# Altium schematic symbol library rcl.SCHLIB: 895 symbols (part 1 of 2)
Pins are listed as number, name and electrical type; pins without a type are passive.

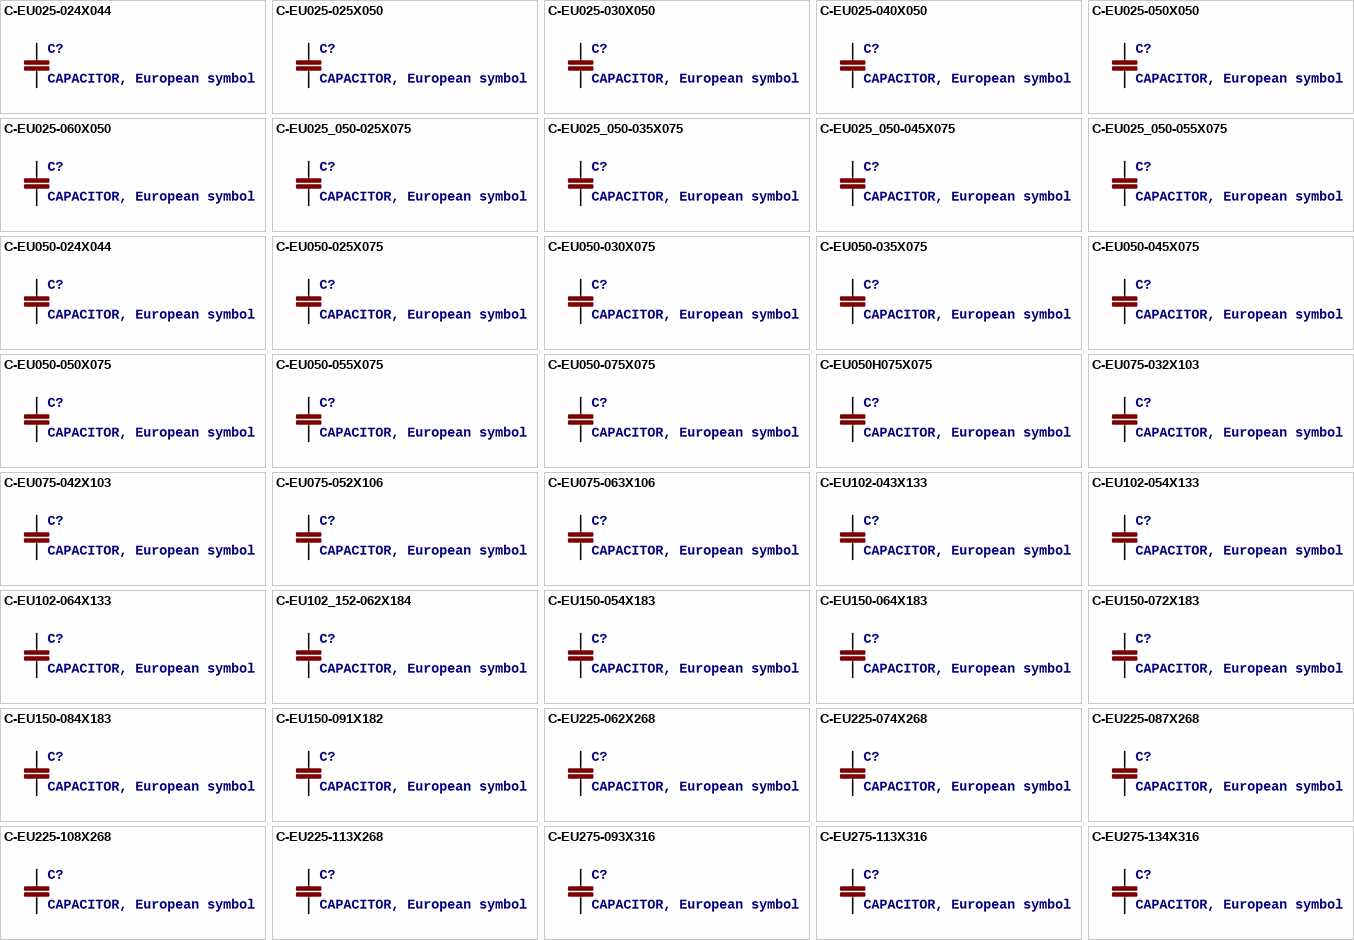
[diagram p0: symbols C-EU025-024X044 to C-EU275-134X316]

## C-EU025-024X044
designator C?, comment CAPACITOR, European symbol
footprint C025-024X044
pins: 1, 2

## C-EU025-025X050
designator C?, comment CAPACITOR, European symbol
footprint C025-025X050
pins: 1, 2

## C-EU025-030X050
designator C?, comment CAPACITOR, European symbol
footprint C025-030X050
pins: 1, 2

## C-EU025-040X050
designator C?, comment CAPACITOR, European symbol
footprint C025-040X050
pins: 1, 2

## C-EU025-050X050
designator C?, comment CAPACITOR, European symbol
footprint C025-050X050
pins: 1, 2

## C-EU025-060X050
designator C?, comment CAPACITOR, European symbol
footprint C025-060X050
pins: 1, 2

## C-EU025_050-025X075
designator C?, comment CAPACITOR, European symbol
footprint C025_050-025X075
pins: 1, 2

## C-EU025_050-035X075
designator C?, comment CAPACITOR, European symbol
footprint C025_050-035X075
pins: 1, 2

## C-EU025_050-045X075
designator C?, comment CAPACITOR, European symbol
footprint C025_050-045X075
pins: 1, 2

## C-EU025_050-055X075
designator C?, comment CAPACITOR, European symbol
footprint C025_050-055X075
pins: 1, 2

## C-EU050-024X044
designator C?, comment CAPACITOR, European symbol
footprint C050-024X044
pins: 1, 2

## C-EU050-025X075
designator C?, comment CAPACITOR, European symbol
footprint C050-025X075
pins: 1, 2

## C-EU050-030X075
designator C?, comment CAPACITOR, European symbol
footprint C050-030X075
pins: 1, 2

## C-EU050-035X075
designator C?, comment CAPACITOR, European symbol
footprint C050-035X075
pins: 1, 2

## C-EU050-045X075
designator C?, comment CAPACITOR, European symbol
footprint C050-045X075
pins: 1, 2

## C-EU050-050X075
designator C?, comment CAPACITOR, European symbol
footprint C050-050X075
pins: 1, 2

## C-EU050-055X075
designator C?, comment CAPACITOR, European symbol
footprint C050-055X075
pins: 1, 2

## C-EU050-075X075
designator C?, comment CAPACITOR, European symbol
footprint C050-075X075
pins: 1, 2

## C-EU050H075X075
designator C?, comment CAPACITOR, European symbol
footprint C050H075X075
pins: 1, 2

## C-EU075-032X103
designator C?, comment CAPACITOR, European symbol
footprint C075-032X103
pins: 1, 2

## C-EU075-042X103
designator C?, comment CAPACITOR, European symbol
footprint C075-042X103
pins: 1, 2

## C-EU075-052X106
designator C?, comment CAPACITOR, European symbol
footprint C075-052X106
pins: 1, 2

## C-EU075-063X106
designator C?, comment CAPACITOR, European symbol
footprint C075-063X106
pins: 1, 2

## C-EU102-043X133
designator C?, comment CAPACITOR, European symbol
footprint C102-043X133
pins: 1, 2

## C-EU102-054X133
designator C?, comment CAPACITOR, European symbol
footprint C102-054X133
pins: 1, 2

## C-EU102-064X133
designator C?, comment CAPACITOR, European symbol
footprint C102-064X133
pins: 1, 2

## C-EU102_152-062X184
designator C?, comment CAPACITOR, European symbol
footprint C102_152-062X184
pins: 1, 2

## C-EU150-054X183
designator C?, comment CAPACITOR, European symbol
footprint C150-054X183
pins: 1, 2

## C-EU150-064X183
designator C?, comment CAPACITOR, European symbol
footprint C150-064X183
pins: 1, 2

## C-EU150-072X183
designator C?, comment CAPACITOR, European symbol
footprint C150-072X183
pins: 1, 2

## C-EU150-084X183
designator C?, comment CAPACITOR, European symbol
footprint C150-084X183
pins: 1, 2

## C-EU150-091X182
designator C?, comment CAPACITOR, European symbol
footprint C150-091X182
pins: 1, 2

## C-EU225-062X268
designator C?, comment CAPACITOR, European symbol
footprint C225-062X268
pins: 1, 2

## C-EU225-074X268
designator C?, comment CAPACITOR, European symbol
footprint C225-074X268
pins: 1, 2

## C-EU225-087X268
designator C?, comment CAPACITOR, European symbol
footprint C225-087X268
pins: 1, 2

## C-EU225-108X268
designator C?, comment CAPACITOR, European symbol
footprint C225-108X268
pins: 1, 2

## C-EU225-113X268
designator C?, comment CAPACITOR, European symbol
footprint C225-113X268
pins: 1, 2

## C-EU275-093X316
designator C?, comment CAPACITOR, European symbol
footprint C275-093X316
pins: 1, 2

## C-EU275-113X316
designator C?, comment CAPACITOR, European symbol
footprint C275-113X316
pins: 1, 2

## C-EU275-134X316
designator C?, comment CAPACITOR, European symbol
footprint C275-134X316
pins: 1, 2

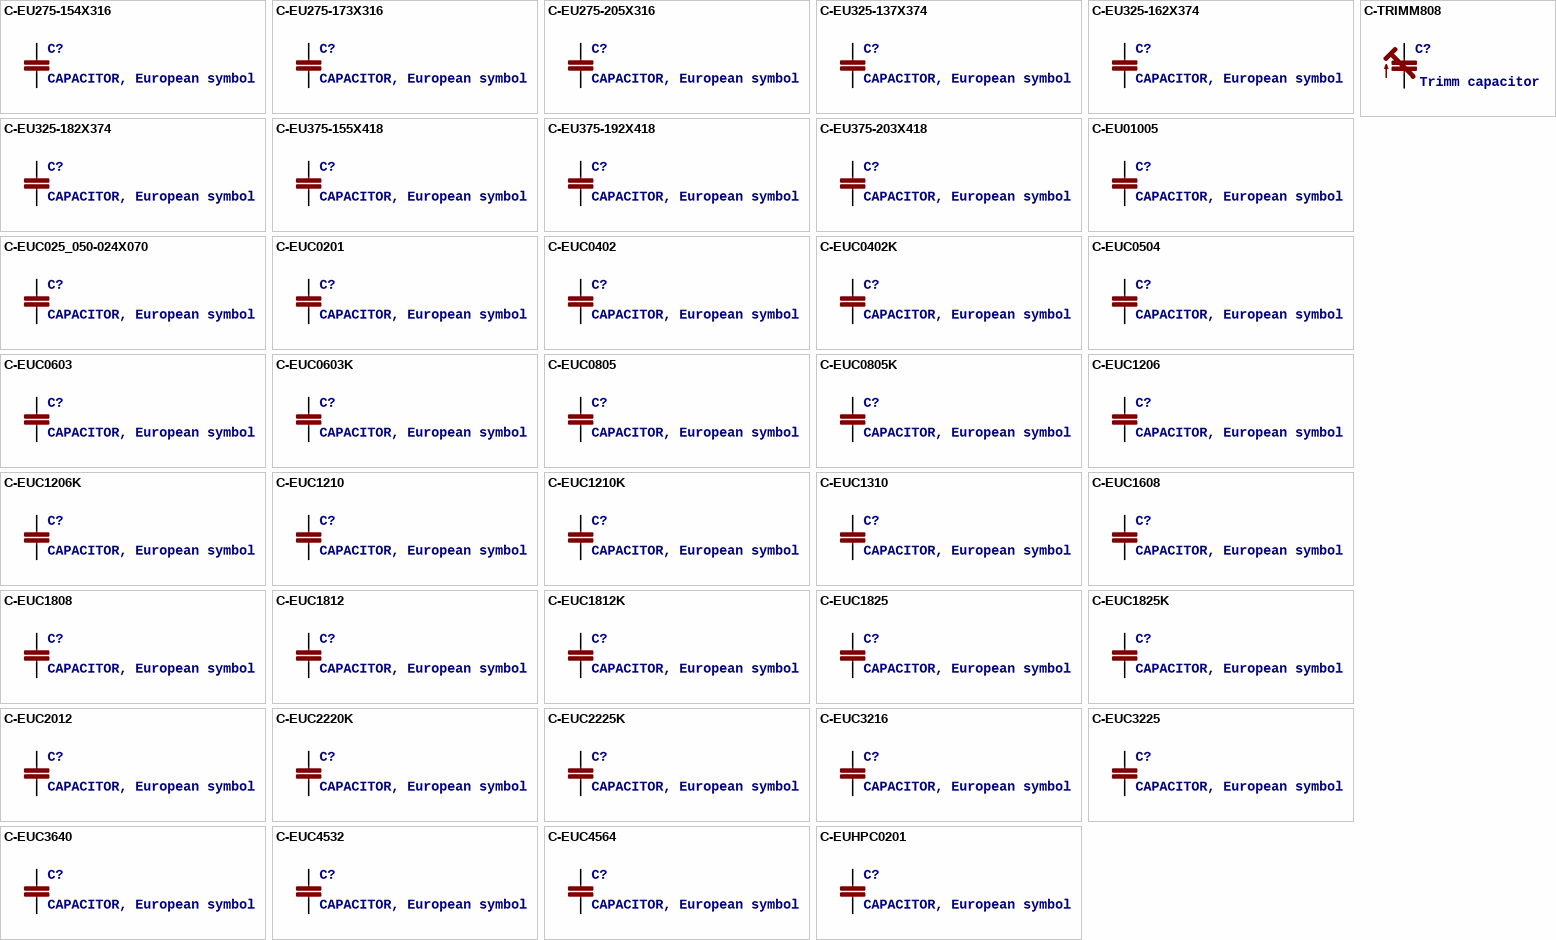
[diagram p1: symbols C-EU275-154X316 to C-TRIMM808]

## C-EU275-154X316
designator C?, comment CAPACITOR, European symbol
footprint C275-154X316
pins: 1, 2

## C-EU275-173X316
designator C?, comment CAPACITOR, European symbol
footprint C275-173X316
pins: 1, 2

## C-EU275-205X316
designator C?, comment CAPACITOR, European symbol
footprint C275-205X316
pins: 1, 2

## C-EU325-137X374
designator C?, comment CAPACITOR, European symbol
footprint C325-137X374
pins: 1, 2

## C-EU325-162X374
designator C?, comment CAPACITOR, European symbol
footprint C325-162X374
pins: 1, 2

## C-EU325-182X374
designator C?, comment CAPACITOR, European symbol
footprint C325-182X374
pins: 1, 2

## C-EU375-155X418
designator C?, comment CAPACITOR, European symbol
footprint C375-155X418
pins: 1, 2

## C-EU375-192X418
designator C?, comment CAPACITOR, European symbol
footprint C375-192X418
pins: 1, 2

## C-EU375-203X418
designator C?, comment CAPACITOR, European symbol
footprint C375-203X418
pins: 1, 2

## C-EU01005
designator C?, comment CAPACITOR, European symbol
footprint C01005
pins: 1, 2

## C-EUC025_050-024X070
designator C?, comment CAPACITOR, European symbol
footprint C025_050-024X070
pins: 1, 2

## C-EUC0201
designator C?, comment CAPACITOR, European symbol
footprint C0201
pins: 1, 2

## C-EUC0402
designator C?, comment CAPACITOR, European symbol
footprint C0402
pins: 1, 2

## C-EUC0402K
designator C?, comment CAPACITOR, European symbol
footprint C0402K
pins: 1, 2

## C-EUC0504
designator C?, comment CAPACITOR, European symbol
footprint C0504
pins: 1, 2

## C-EUC0603
designator C?, comment CAPACITOR, European symbol
footprint C0603
pins: 1, 2

## C-EUC0603K
designator C?, comment CAPACITOR, European symbol
footprint C0603K
pins: 1, 2

## C-EUC0805
designator C?, comment CAPACITOR, European symbol
footprint C0805
pins: 1, 2

## C-EUC0805K
designator C?, comment CAPACITOR, European symbol
footprint C0805K
pins: 1, 2

## C-EUC1206
designator C?, comment CAPACITOR, European symbol
footprint C1206
pins: 1, 2

## C-EUC1206K
designator C?, comment CAPACITOR, European symbol
footprint C1206K
pins: 1, 2

## C-EUC1210
designator C?, comment CAPACITOR, European symbol
footprint C1210
pins: 1, 2

## C-EUC1210K
designator C?, comment CAPACITOR, European symbol
footprint C1210K
pins: 1, 2

## C-EUC1310
designator C?, comment CAPACITOR, European symbol
footprint C1310
pins: 1, 2

## C-EUC1608
designator C?, comment CAPACITOR, European symbol
footprint C1608
pins: 1, 2

## C-EUC1808
designator C?, comment CAPACITOR, European symbol
footprint C1808
pins: 1, 2

## C-EUC1812
designator C?, comment CAPACITOR, European symbol
footprint C1812
pins: 1, 2

## C-EUC1812K
designator C?, comment CAPACITOR, European symbol
footprint C1812K
pins: 1, 2

## C-EUC1825
designator C?, comment CAPACITOR, European symbol
footprint C1825
pins: 1, 2

## C-EUC1825K
designator C?, comment CAPACITOR, European symbol
footprint C1825K
pins: 1, 2

## C-EUC2012
designator C?, comment CAPACITOR, European symbol
footprint C2012
pins: 1, 2

## C-EUC2220K
designator C?, comment CAPACITOR, European symbol
footprint C2220K
pins: 1, 2

## C-EUC2225K
designator C?, comment CAPACITOR, European symbol
footprint C2225K
pins: 1, 2

## C-EUC3216
designator C?, comment CAPACITOR, European symbol
footprint C3216
pins: 1, 2

## C-EUC3225
designator C?, comment CAPACITOR, European symbol
footprint C3225
pins: 1, 2

## C-EUC3640
designator C?, comment CAPACITOR, European symbol
footprint C3640
pins: 1, 2

## C-EUC4532
designator C?, comment CAPACITOR, European symbol
footprint C4532
pins: 1, 2

## C-EUC4564
designator C?, comment CAPACITOR, European symbol
footprint C4564
pins: 1, 2

## C-EUHPC0201
designator C?, comment CAPACITOR, European symbol
footprint HPC0201
pins: 1, 2

## C-TRIMM808
designator C?, comment Trimm capacitor
footprint CTRIM808-BC
pins: 1 E, 2 A

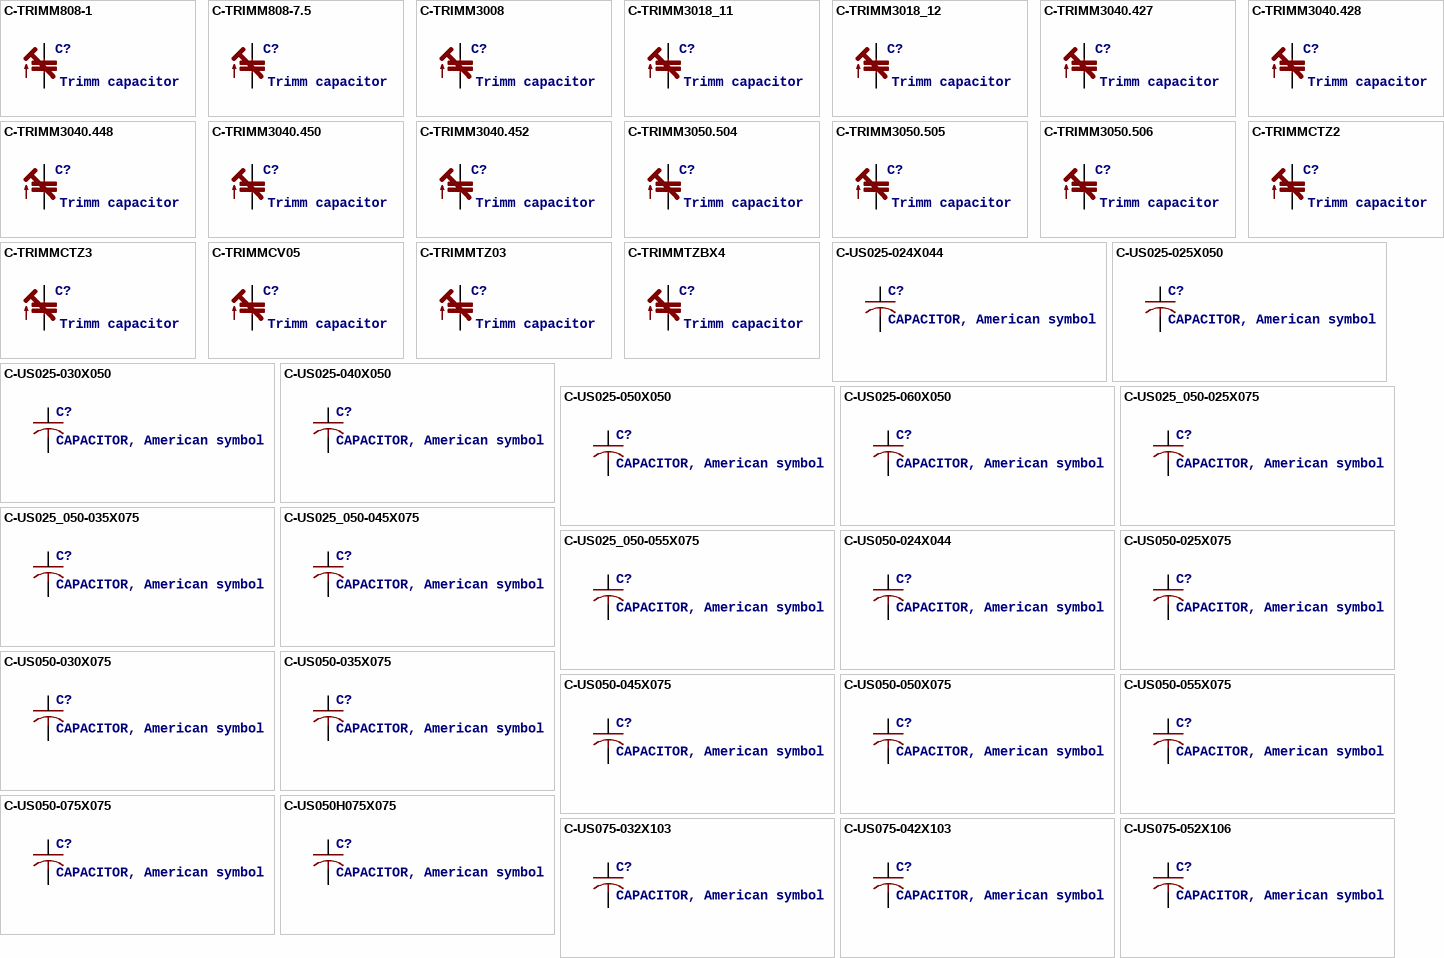
[diagram p2: symbols C-TRIMM808-1 to C-US075-052X106]

## C-TRIMM808-1
designator C?, comment Trimm capacitor
footprint CTRIM808-1
pins: 1 E, 2 A

## C-TRIMM808-7.5
designator C?, comment Trimm capacitor
footprint CTRIM808-BC7.5
pins: 1 E, 2 A

## C-TRIMM3008
designator C?, comment Trimm capacitor
footprint CTRIM3008
pins: + E, - A

## C-TRIMM3018_11
designator C?, comment Trimm capacitor
footprint CTRIM3018_11
pins: + E, - A

## C-TRIMM3018_12
designator C?, comment Trimm capacitor
footprint CTRIM3018_12
pins: + E, - A

## C-TRIMM3040.427
designator C?, comment Trimm capacitor
footprint CTRIM3040.427
pins: 1A E, 2 A

## C-TRIMM3040.428
designator C?, comment Trimm capacitor
footprint CTRIM3040.428
pins: 1A E, 2 A

## C-TRIMM3040.448
designator C?, comment Trimm capacitor
footprint CTRIM3040.448
pins: 1A E, 2 A

## C-TRIMM3040.450
designator C?, comment Trimm capacitor
footprint CTRIM3040.450
pins: 1A E, 2 A

## C-TRIMM3040.452
designator C?, comment Trimm capacitor
footprint CTRIM3040.452
pins: 1A E, 2 A

## C-TRIMM3050.504
designator C?, comment Trimm capacitor
footprint CTRIM3050.504
pins: 1 E, 2 A

## C-TRIMM3050.505
designator C?, comment Trimm capacitor
footprint CTRIM3050.505
pins: 1 E, 2 A

## C-TRIMM3050.506
designator C?, comment Trimm capacitor
footprint CTRIM3050.506
pins: 1A E, 2 A

## C-TRIMMCTZ2
designator C?, comment Trimm capacitor
footprint CTRIMCTZ2
pins: 1 E, 2 A

## C-TRIMMCTZ3
designator C?, comment Trimm capacitor
footprint CTRIMCTZ3
pins: 1 E, 2 A

## C-TRIMMCV05
designator C?, comment Trimm capacitor
footprint CTRIMCV05
pins: 1 E, 2 A

## C-TRIMMTZ03
designator C?, comment Trimm capacitor
footprint CTRIMTZ03
pins: 1 E, 2 A

## C-TRIMMTZBX4
designator C?, comment Trimm capacitor
footprint CTRIMTZBX4
pins: 1 E, 2 A

## C-US025-024X044
designator C?, comment CAPACITOR, American symbol
footprint C025-024X044
pins: 1, 2

## C-US025-025X050
designator C?, comment CAPACITOR, American symbol
footprint C025-025X050
pins: 1, 2

## C-US025-030X050
designator C?, comment CAPACITOR, American symbol
footprint C025-030X050
pins: 1, 2

## C-US025-040X050
designator C?, comment CAPACITOR, American symbol
footprint C025-040X050
pins: 1, 2

## C-US025-050X050
designator C?, comment CAPACITOR, American symbol
footprint C025-050X050
pins: 1, 2

## C-US025-060X050
designator C?, comment CAPACITOR, American symbol
footprint C025-060X050
pins: 1, 2

## C-US025_050-025X075
designator C?, comment CAPACITOR, American symbol
footprint C025_050-025X075
pins: 1, 2

## C-US025_050-035X075
designator C?, comment CAPACITOR, American symbol
footprint C025_050-035X075
pins: 1, 2

## C-US025_050-045X075
designator C?, comment CAPACITOR, American symbol
footprint C025_050-045X075
pins: 1, 2

## C-US025_050-055X075
designator C?, comment CAPACITOR, American symbol
footprint C025_050-055X075
pins: 1, 2

## C-US050-024X044
designator C?, comment CAPACITOR, American symbol
footprint C050-024X044
pins: 1, 2

## C-US050-025X075
designator C?, comment CAPACITOR, American symbol
footprint C050-025X075
pins: 1, 2

## C-US050-030X075
designator C?, comment CAPACITOR, American symbol
footprint C050-030X075
pins: 1, 2

## C-US050-035X075
designator C?, comment CAPACITOR, American symbol
footprint C050-035X075
pins: 1, 2

## C-US050-045X075
designator C?, comment CAPACITOR, American symbol
footprint C050-045X075
pins: 1, 2

## C-US050-050X075
designator C?, comment CAPACITOR, American symbol
footprint C050-050X075
pins: 1, 2

## C-US050-055X075
designator C?, comment CAPACITOR, American symbol
footprint C050-055X075
pins: 1, 2

## C-US050-075X075
designator C?, comment CAPACITOR, American symbol
footprint C050-075X075
pins: 1, 2

## C-US050H075X075
designator C?, comment CAPACITOR, American symbol
footprint C050H075X075
pins: 1, 2

## C-US075-032X103
designator C?, comment CAPACITOR, American symbol
footprint C075-032X103
pins: 1, 2

## C-US075-042X103
designator C?, comment CAPACITOR, American symbol
footprint C075-042X103
pins: 1, 2

## C-US075-052X106
designator C?, comment CAPACITOR, American symbol
footprint C075-052X106
pins: 1, 2

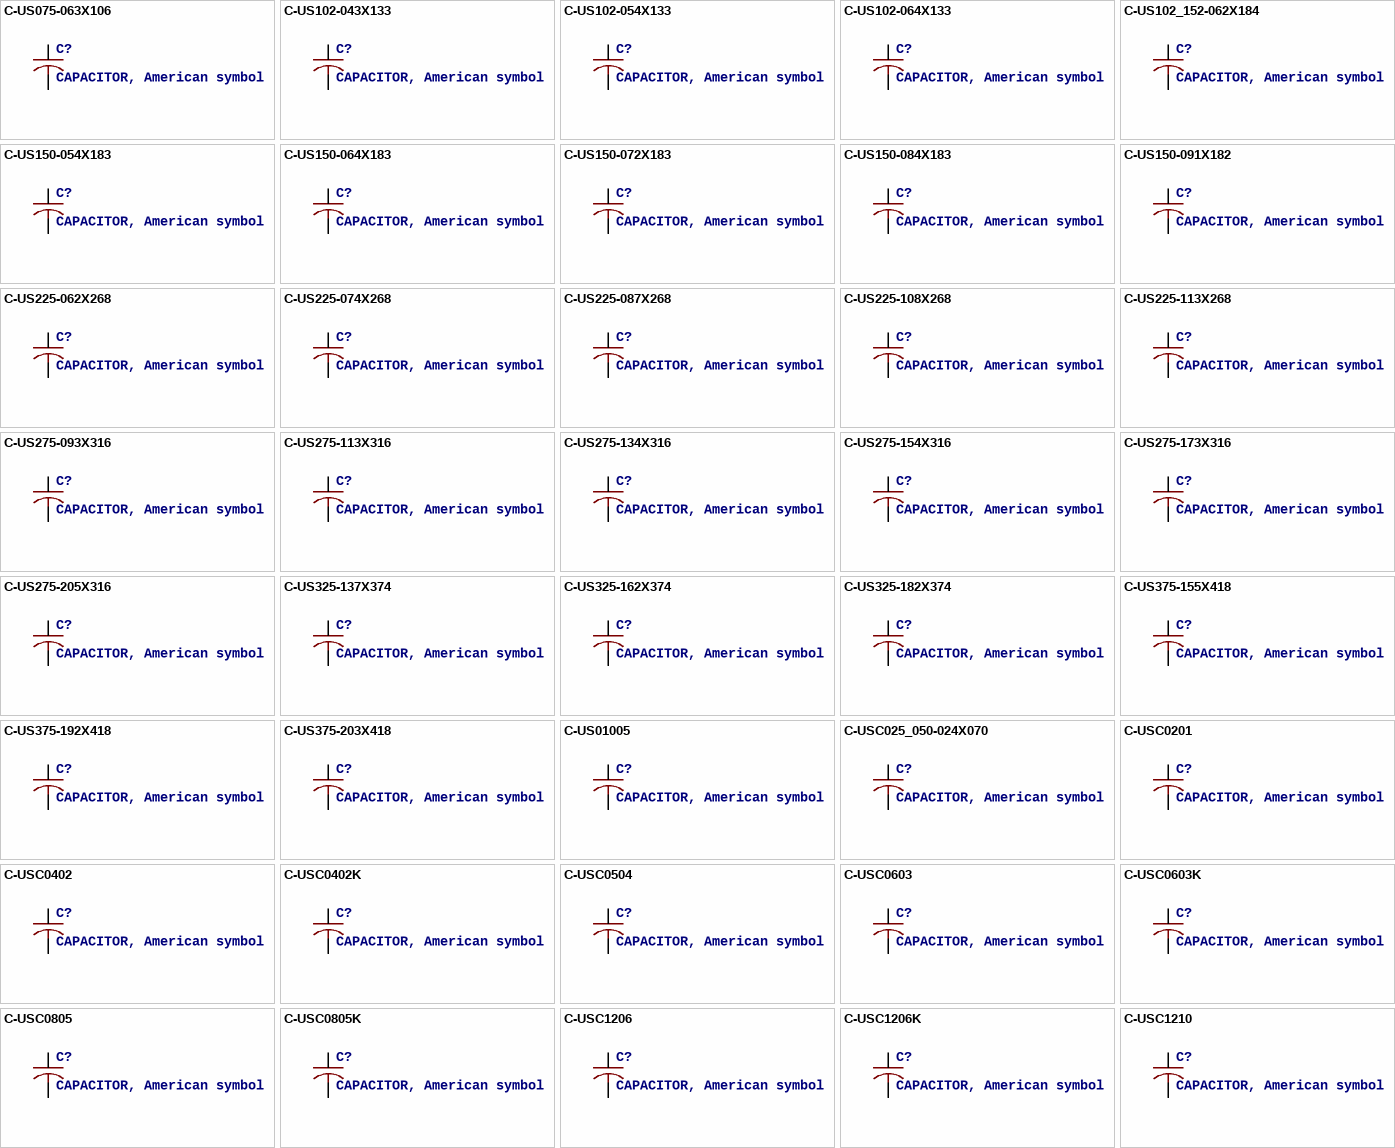
[diagram p3: symbols C-US075-063X106 to C-USC1210]

## C-US075-063X106
designator C?, comment CAPACITOR, American symbol
footprint C075-063X106
pins: 1, 2

## C-US102-043X133
designator C?, comment CAPACITOR, American symbol
footprint C102-043X133
pins: 1, 2

## C-US102-054X133
designator C?, comment CAPACITOR, American symbol
footprint C102-054X133
pins: 1, 2

## C-US102-064X133
designator C?, comment CAPACITOR, American symbol
footprint C102-064X133
pins: 1, 2

## C-US102_152-062X184
designator C?, comment CAPACITOR, American symbol
footprint C102_152-062X184
pins: 1, 2

## C-US150-054X183
designator C?, comment CAPACITOR, American symbol
footprint C150-054X183
pins: 1, 2

## C-US150-064X183
designator C?, comment CAPACITOR, American symbol
footprint C150-064X183
pins: 1, 2

## C-US150-072X183
designator C?, comment CAPACITOR, American symbol
footprint C150-072X183
pins: 1, 2

## C-US150-084X183
designator C?, comment CAPACITOR, American symbol
footprint C150-084X183
pins: 1, 2

## C-US150-091X182
designator C?, comment CAPACITOR, American symbol
footprint C150-091X182
pins: 1, 2

## C-US225-062X268
designator C?, comment CAPACITOR, American symbol
footprint C225-062X268
pins: 1, 2

## C-US225-074X268
designator C?, comment CAPACITOR, American symbol
footprint C225-074X268
pins: 1, 2

## C-US225-087X268
designator C?, comment CAPACITOR, American symbol
footprint C225-087X268
pins: 1, 2

## C-US225-108X268
designator C?, comment CAPACITOR, American symbol
footprint C225-108X268
pins: 1, 2

## C-US225-113X268
designator C?, comment CAPACITOR, American symbol
footprint C225-113X268
pins: 1, 2

## C-US275-093X316
designator C?, comment CAPACITOR, American symbol
footprint C275-093X316
pins: 1, 2

## C-US275-113X316
designator C?, comment CAPACITOR, American symbol
footprint C275-113X316
pins: 1, 2

## C-US275-134X316
designator C?, comment CAPACITOR, American symbol
footprint C275-134X316
pins: 1, 2

## C-US275-154X316
designator C?, comment CAPACITOR, American symbol
footprint C275-154X316
pins: 1, 2

## C-US275-173X316
designator C?, comment CAPACITOR, American symbol
footprint C275-173X316
pins: 1, 2

## C-US275-205X316
designator C?, comment CAPACITOR, American symbol
footprint C275-205X316
pins: 1, 2

## C-US325-137X374
designator C?, comment CAPACITOR, American symbol
footprint C325-137X374
pins: 1, 2

## C-US325-162X374
designator C?, comment CAPACITOR, American symbol
footprint C325-162X374
pins: 1, 2

## C-US325-182X374
designator C?, comment CAPACITOR, American symbol
footprint C325-182X374
pins: 1, 2

## C-US375-155X418
designator C?, comment CAPACITOR, American symbol
footprint C375-155X418
pins: 1, 2

## C-US375-192X418
designator C?, comment CAPACITOR, American symbol
footprint C375-192X418
pins: 1, 2

## C-US375-203X418
designator C?, comment CAPACITOR, American symbol
footprint C375-203X418
pins: 1, 2

## C-US01005
designator C?, comment CAPACITOR, American symbol
footprint C01005
pins: 1, 2

## C-USC025_050-024X070
designator C?, comment CAPACITOR, American symbol
footprint C025_050-024X070
pins: 1, 2

## C-USC0201
designator C?, comment CAPACITOR, American symbol
footprint C0201
pins: 1, 2

## C-USC0402
designator C?, comment CAPACITOR, American symbol
footprint C0402
pins: 1, 2

## C-USC0402K
designator C?, comment CAPACITOR, American symbol
footprint C0402K
pins: 1, 2

## C-USC0504
designator C?, comment CAPACITOR, American symbol
footprint C0504
pins: 1, 2

## C-USC0603
designator C?, comment CAPACITOR, American symbol
footprint C0603
pins: 1, 2

## C-USC0603K
designator C?, comment CAPACITOR, American symbol
footprint C0603K
pins: 1, 2

## C-USC0805
designator C?, comment CAPACITOR, American symbol
footprint C0805
pins: 1, 2

## C-USC0805K
designator C?, comment CAPACITOR, American symbol
footprint C0805K
pins: 1, 2

## C-USC1206
designator C?, comment CAPACITOR, American symbol
footprint C1206
pins: 1, 2

## C-USC1206K
designator C?, comment CAPACITOR, American symbol
footprint C1206K
pins: 1, 2

## C-USC1210
designator C?, comment CAPACITOR, American symbol
footprint C1210
pins: 1, 2

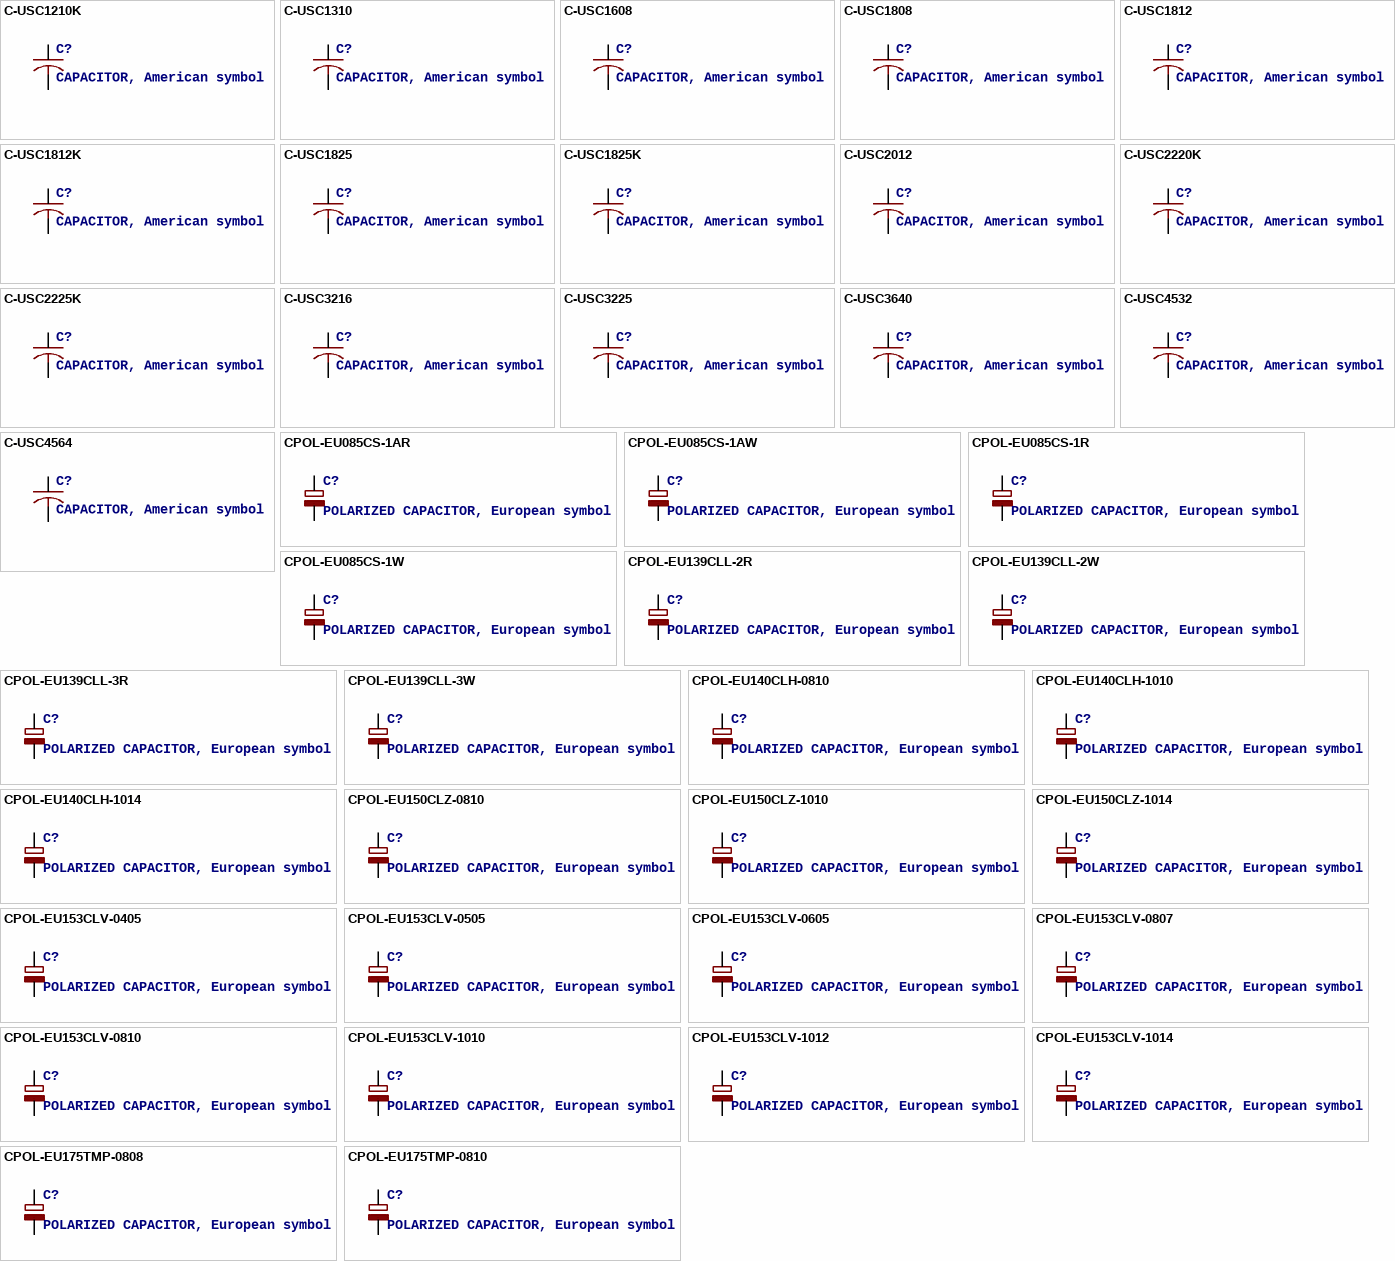
[diagram p4: symbols C-USC1210K to CPOL-EU175TMP-0810]

## C-USC1210K
designator C?, comment CAPACITOR, American symbol
footprint C1210K
pins: 1, 2

## C-USC1310
designator C?, comment CAPACITOR, American symbol
footprint C1310
pins: 1, 2

## C-USC1608
designator C?, comment CAPACITOR, American symbol
footprint C1608
pins: 1, 2

## C-USC1808
designator C?, comment CAPACITOR, American symbol
footprint C1808
pins: 1, 2

## C-USC1812
designator C?, comment CAPACITOR, American symbol
footprint C1812
pins: 1, 2

## C-USC1812K
designator C?, comment CAPACITOR, American symbol
footprint C1812K
pins: 1, 2

## C-USC1825
designator C?, comment CAPACITOR, American symbol
footprint C1825
pins: 1, 2

## C-USC1825K
designator C?, comment CAPACITOR, American symbol
footprint C1825K
pins: 1, 2

## C-USC2012
designator C?, comment CAPACITOR, American symbol
footprint C2012
pins: 1, 2

## C-USC2220K
designator C?, comment CAPACITOR, American symbol
footprint C2220K
pins: 1, 2

## C-USC2225K
designator C?, comment CAPACITOR, American symbol
footprint C2225K
pins: 1, 2

## C-USC3216
designator C?, comment CAPACITOR, American symbol
footprint C3216
pins: 1, 2

## C-USC3225
designator C?, comment CAPACITOR, American symbol
footprint C3225
pins: 1, 2

## C-USC3640
designator C?, comment CAPACITOR, American symbol
footprint C3640
pins: 1, 2

## C-USC4532
designator C?, comment CAPACITOR, American symbol
footprint C4532
pins: 1, 2

## C-USC4564
designator C?, comment CAPACITOR, American symbol
footprint C4564
pins: 1, 2

## CPOL-EU085CS-1AR
designator C?, comment POLARIZED CAPACITOR, European symbol
footprint 085CS_1AR
pins: +, -

## CPOL-EU085CS-1AW
designator C?, comment POLARIZED CAPACITOR, European symbol
footprint 085CS_1AW
pins: +, -

## CPOL-EU085CS-1R
designator C?, comment POLARIZED CAPACITOR, European symbol
footprint 085CS_1R
pins: +, -

## CPOL-EU085CS-1W
designator C?, comment POLARIZED CAPACITOR, European symbol
footprint 085CS_1W
pins: +, -

## CPOL-EU139CLL-2R
designator C?, comment POLARIZED CAPACITOR, European symbol
footprint 139CLL-2R
pins: +, -

## CPOL-EU139CLL-2W
designator C?, comment POLARIZED CAPACITOR, European symbol
footprint 139CLL-2W
pins: +, -

## CPOL-EU139CLL-3R
designator C?, comment POLARIZED CAPACITOR, European symbol
footprint 139CLL-3R
pins: +, -

## CPOL-EU139CLL-3W
designator C?, comment POLARIZED CAPACITOR, European symbol
footprint 139CLL-3W
pins: +, -

## CPOL-EU140CLH-0810
designator C?, comment POLARIZED CAPACITOR, European symbol
footprint 140CLH-0810
pins: +, -

## CPOL-EU140CLH-1010
designator C?, comment POLARIZED CAPACITOR, European symbol
footprint 140CLH-1010
pins: +, -

## CPOL-EU140CLH-1014
designator C?, comment POLARIZED CAPACITOR, European symbol
footprint 140CLH-1014
pins: +, -

## CPOL-EU150CLZ-0810
designator C?, comment POLARIZED CAPACITOR, European symbol
footprint 150CLZ-0810
pins: +, -

## CPOL-EU150CLZ-1010
designator C?, comment POLARIZED CAPACITOR, European symbol
footprint 150CLZ-1010
pins: +, -

## CPOL-EU150CLZ-1014
designator C?, comment POLARIZED CAPACITOR, European symbol
footprint 150CLZ-1014
pins: +, -

## CPOL-EU153CLV-0405
designator C?, comment POLARIZED CAPACITOR, European symbol
footprint 153CLV-0405
pins: +, -

## CPOL-EU153CLV-0505
designator C?, comment POLARIZED CAPACITOR, European symbol
footprint 153CLV-0505
pins: +, -

## CPOL-EU153CLV-0605
designator C?, comment POLARIZED CAPACITOR, European symbol
footprint 153CLV-0605
pins: +, -

## CPOL-EU153CLV-0807
designator C?, comment POLARIZED CAPACITOR, European symbol
footprint 153CLV-0807
pins: +, -

## CPOL-EU153CLV-0810
designator C?, comment POLARIZED CAPACITOR, European symbol
footprint 153CLV-0810
pins: +, -

## CPOL-EU153CLV-1010
designator C?, comment POLARIZED CAPACITOR, European symbol
footprint 153CLV-1010
pins: +, -

## CPOL-EU153CLV-1012
designator C?, comment POLARIZED CAPACITOR, European symbol
footprint 153CLV-1012
pins: +, -

## CPOL-EU153CLV-1014
designator C?, comment POLARIZED CAPACITOR, European symbol
footprint 153CLV-1014
pins: +, -

## CPOL-EU175TMP-0808
designator C?, comment POLARIZED CAPACITOR, European symbol
footprint 175TMP-0808
pins: +, -

## CPOL-EU175TMP-0810
designator C?, comment POLARIZED CAPACITOR, European symbol
footprint 175TMP-0810
pins: +, -

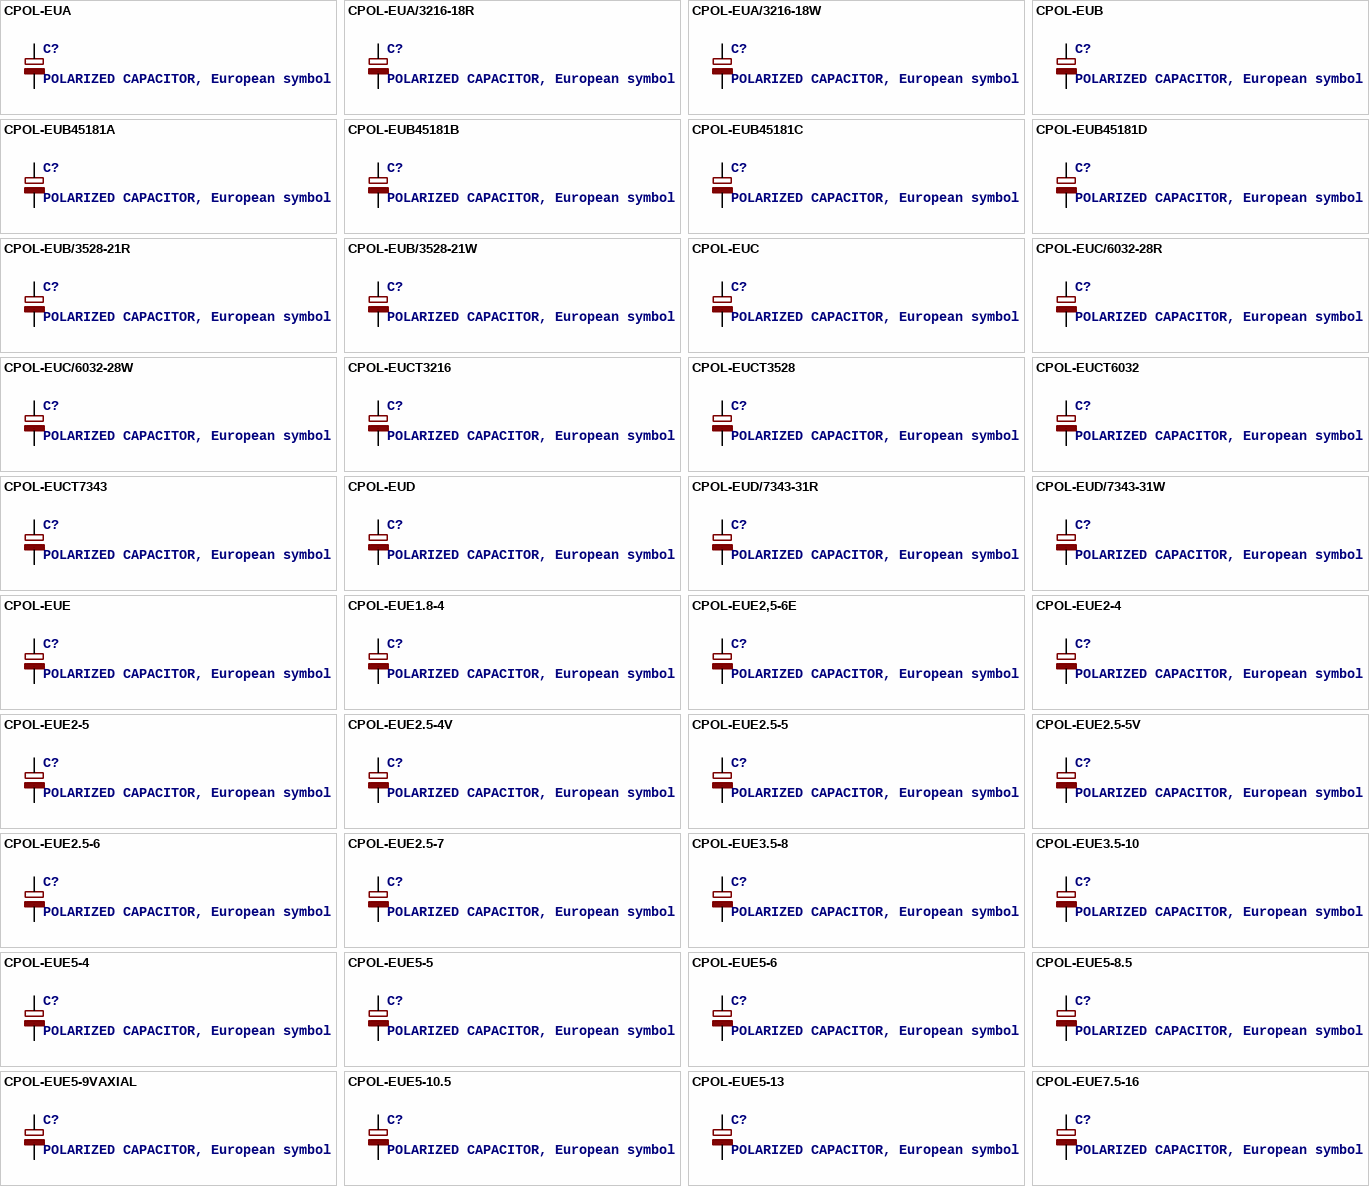
[diagram p5: symbols CPOL-EUA to CPOL-EUE7.5-16]

## CPOL-EUA
designator C?, comment POLARIZED CAPACITOR, European symbol
footprint PANASONIC_A
pins: +, -

## CPOL-EUA/3216-18R
designator C?, comment POLARIZED CAPACITOR, European symbol
footprint A/3216-18R
pins: +, -

## CPOL-EUA/3216-18W
designator C?, comment POLARIZED CAPACITOR, European symbol
footprint A/3216-18W
pins: +, -

## CPOL-EUB
designator C?, comment POLARIZED CAPACITOR, European symbol
footprint PANASONIC_B
pins: +, -

## CPOL-EUB45181A
designator C?, comment POLARIZED CAPACITOR, European symbol
footprint B45181A
pins: +, -

## CPOL-EUB45181B
designator C?, comment POLARIZED CAPACITOR, European symbol
footprint B45181B
pins: +, -

## CPOL-EUB45181C
designator C?, comment POLARIZED CAPACITOR, European symbol
footprint B45181C
pins: +, -

## CPOL-EUB45181D
designator C?, comment POLARIZED CAPACITOR, European symbol
footprint B45181D
pins: +, -

## CPOL-EUB/3528-21R
designator C?, comment POLARIZED CAPACITOR, European symbol
footprint B/3528-21R
pins: +, -

## CPOL-EUB/3528-21W
designator C?, comment POLARIZED CAPACITOR, European symbol
footprint B/3528-21W
pins: +, -

## CPOL-EUC
designator C?, comment POLARIZED CAPACITOR, European symbol
footprint PANASONIC_C
pins: +, -

## CPOL-EUC/6032-28R
designator C?, comment POLARIZED CAPACITOR, European symbol
footprint C/6032-28R
pins: +, -

## CPOL-EUC/6032-28W
designator C?, comment POLARIZED CAPACITOR, European symbol
footprint C/6032-28W
pins: +, -

## CPOL-EUCT3216
designator C?, comment POLARIZED CAPACITOR, European symbol
footprint CT3216
pins: +, -

## CPOL-EUCT3528
designator C?, comment POLARIZED CAPACITOR, European symbol
footprint CT3528
pins: +, -

## CPOL-EUCT6032
designator C?, comment POLARIZED CAPACITOR, European symbol
footprint CT6032
pins: +, -

## CPOL-EUCT7343
designator C?, comment POLARIZED CAPACITOR, European symbol
footprint CT7343
pins: +, -

## CPOL-EUD
designator C?, comment POLARIZED CAPACITOR, European symbol
footprint PANASONIC_D
pins: +, -

## CPOL-EUD/7343-31R
designator C?, comment POLARIZED CAPACITOR, European symbol
footprint D/7343-31R
pins: +, -

## CPOL-EUD/7343-31W
designator C?, comment POLARIZED CAPACITOR, European symbol
footprint D/7343-31W
pins: +, -

## CPOL-EUE
designator C?, comment POLARIZED CAPACITOR, European symbol
footprint PANASONIC_E
pins: +, -

## CPOL-EUE1.8-4
designator C?, comment POLARIZED CAPACITOR, European symbol
footprint E1,8-4
pins: +, -

## CPOL-EUE2,5-6E
designator C?, comment POLARIZED CAPACITOR, European symbol
footprint E2,5-6E
pins: +, -

## CPOL-EUE2-4
designator C?, comment POLARIZED CAPACITOR, European symbol
footprint E2-4
pins: +, -

## CPOL-EUE2-5
designator C?, comment POLARIZED CAPACITOR, European symbol
footprint E2-5
pins: +, -

## CPOL-EUE2.5-4V
designator C?, comment POLARIZED CAPACITOR, European symbol
footprint E2,5RE
pins: +, -

## CPOL-EUE2.5-5
designator C?, comment POLARIZED CAPACITOR, European symbol
footprint E2,5-5
pins: +, -

## CPOL-EUE2.5-5V
designator C?, comment POLARIZED CAPACITOR, European symbol
footprint E2,5-4R
pins: +, -

## CPOL-EUE2.5-6
designator C?, comment POLARIZED CAPACITOR, European symbol
footprint E2,5-6
pins: +, -

## CPOL-EUE2.5-7
designator C?, comment POLARIZED CAPACITOR, European symbol
footprint E2,5-7
pins: +, -

## CPOL-EUE3.5-8
designator C?, comment POLARIZED CAPACITOR, European symbol
footprint E3,5-8
pins: +, -

## CPOL-EUE3.5-10
designator C?, comment POLARIZED CAPACITOR, European symbol
footprint E3,5-10
pins: +, -

## CPOL-EUE5-4
designator C?, comment POLARIZED CAPACITOR, European symbol
footprint E5-4
pins: +, -

## CPOL-EUE5-5
designator C?, comment POLARIZED CAPACITOR, European symbol
footprint E5-5
pins: +, -

## CPOL-EUE5-6
designator C?, comment POLARIZED CAPACITOR, European symbol
footprint E5-6
pins: +, -

## CPOL-EUE5-8.5
designator C?, comment POLARIZED CAPACITOR, European symbol
footprint E5-8,5
pins: +, -

## CPOL-EUE5-9VAXIAL
designator C?, comment POLARIZED CAPACITOR, European symbol
footprint E5R
pins: +, -

## CPOL-EUE5-10.5
designator C?, comment POLARIZED CAPACITOR, European symbol
footprint E5-10,5
pins: +, -

## CPOL-EUE5-13
designator C?, comment POLARIZED CAPACITOR, European symbol
footprint E5-13
pins: +, -

## CPOL-EUE7.5-16
designator C?, comment POLARIZED CAPACITOR, European symbol
footprint E7,5-16
pins: +, -

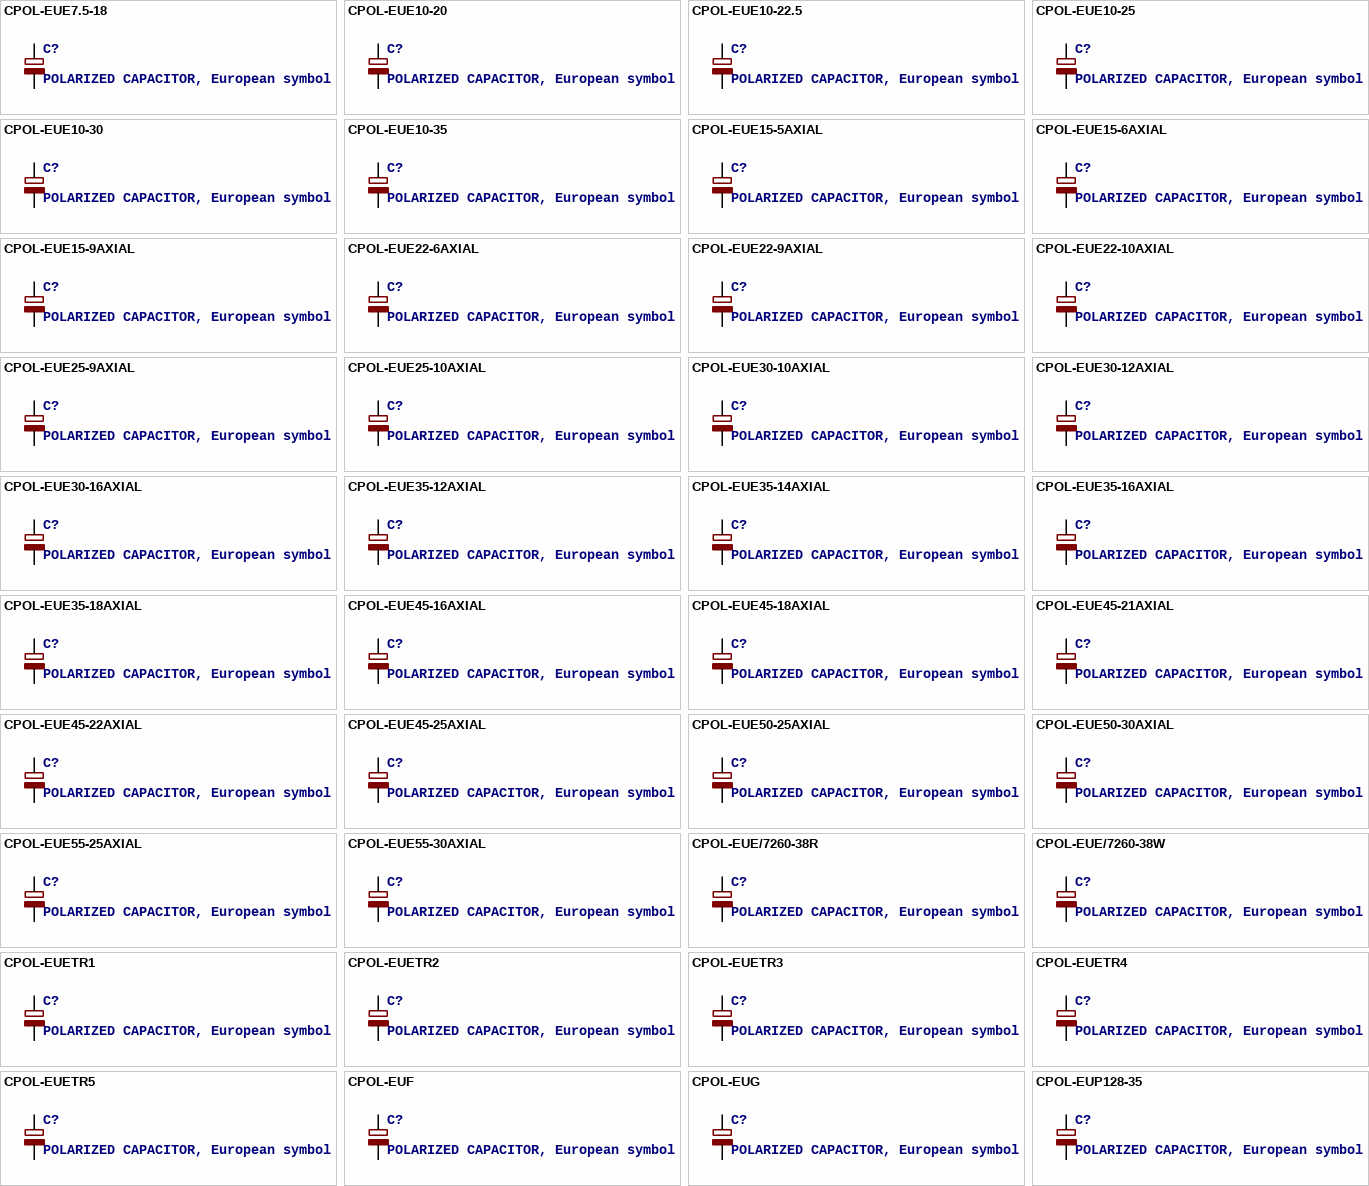
[diagram p6: symbols CPOL-EUE7.5-18 to CPOL-EUP128-35]

## CPOL-EUE7.5-18
designator C?, comment POLARIZED CAPACITOR, European symbol
footprint E7,5-18
pins: +, -

## CPOL-EUE10-20
designator C?, comment POLARIZED CAPACITOR, European symbol
footprint EB20D
pins: +, -

## CPOL-EUE10-22.5
designator C?, comment POLARIZED CAPACITOR, European symbol
footprint EB22,5D
pins: +, -

## CPOL-EUE10-25
designator C?, comment POLARIZED CAPACITOR, European symbol
footprint EB25D
pins: +, -

## CPOL-EUE10-30
designator C?, comment POLARIZED CAPACITOR, European symbol
footprint EB30D
pins: +, -

## CPOL-EUE10-35
designator C?, comment POLARIZED CAPACITOR, European symbol
footprint EB35D
pins: +, -

## CPOL-EUE15-5AXIAL
designator C?, comment POLARIZED CAPACITOR, European symbol
footprint E15-5
pins: +, -

## CPOL-EUE15-6AXIAL
designator C?, comment POLARIZED CAPACITOR, European symbol
footprint E15-6
pins: +, -

## CPOL-EUE15-9AXIAL
designator C?, comment POLARIZED CAPACITOR, European symbol
footprint E15-9
pins: +, -

## CPOL-EUE22-6AXIAL
designator C?, comment POLARIZED CAPACITOR, European symbol
footprint E22-6
pins: +, -

## CPOL-EUE22-9AXIAL
designator C?, comment POLARIZED CAPACITOR, European symbol
footprint E22-9
pins: +, -

## CPOL-EUE22-10AXIAL
designator C?, comment POLARIZED CAPACITOR, European symbol
footprint E22-10
pins: +, -

## CPOL-EUE25-9AXIAL
designator C?, comment POLARIZED CAPACITOR, European symbol
footprint E25-9
pins: +, -

## CPOL-EUE25-10AXIAL
designator C?, comment POLARIZED CAPACITOR, European symbol
footprint E25-10
pins: +, -

## CPOL-EUE30-10AXIAL
designator C?, comment POLARIZED CAPACITOR, European symbol
footprint E30-10
pins: +, -

## CPOL-EUE30-12AXIAL
designator C?, comment POLARIZED CAPACITOR, European symbol
footprint E30-12
pins: +, -

## CPOL-EUE30-16AXIAL
designator C?, comment POLARIZED CAPACITOR, European symbol
footprint E30-16
pins: +, -

## CPOL-EUE35-12AXIAL
designator C?, comment POLARIZED CAPACITOR, European symbol
footprint E35-12
pins: +, -

## CPOL-EUE35-14AXIAL
designator C?, comment POLARIZED CAPACITOR, European symbol
footprint E35-14
pins: +, -

## CPOL-EUE35-16AXIAL
designator C?, comment POLARIZED CAPACITOR, European symbol
footprint E35-16
pins: +, -

## CPOL-EUE35-18AXIAL
designator C?, comment POLARIZED CAPACITOR, European symbol
footprint E35-18
pins: +, -

## CPOL-EUE45-16AXIAL
designator C?, comment POLARIZED CAPACITOR, European symbol
footprint E45-16
pins: +, -

## CPOL-EUE45-18AXIAL
designator C?, comment POLARIZED CAPACITOR, European symbol
footprint E45-18
pins: +, -

## CPOL-EUE45-21AXIAL
designator C?, comment POLARIZED CAPACITOR, European symbol
footprint E45-21
pins: +, -

## CPOL-EUE45-22AXIAL
designator C?, comment POLARIZED CAPACITOR, European symbol
footprint E45-22
pins: +, -

## CPOL-EUE45-25AXIAL
designator C?, comment POLARIZED CAPACITOR, European symbol
footprint E45-25
pins: +, -

## CPOL-EUE50-25AXIAL
designator C?, comment POLARIZED CAPACITOR, European symbol
footprint E50-25
pins: +, -

## CPOL-EUE50-30AXIAL
designator C?, comment POLARIZED CAPACITOR, European symbol
footprint E50-30
pins: +, -

## CPOL-EUE55-25AXIAL
designator C?, comment POLARIZED CAPACITOR, European symbol
footprint E55-25
pins: +, -

## CPOL-EUE55-30AXIAL
designator C?, comment POLARIZED CAPACITOR, European symbol
footprint E55-30
pins: +, -

## CPOL-EUE/7260-38R
designator C?, comment POLARIZED CAPACITOR, European symbol
footprint E/7260-38R
pins: +, -

## CPOL-EUE/7260-38W
designator C?, comment POLARIZED CAPACITOR, European symbol
footprint E/7260-38W
pins: +, -

## CPOL-EUETR1
designator C?, comment POLARIZED CAPACITOR, European symbol
footprint ETR1
pins: +, -

## CPOL-EUETR2
designator C?, comment POLARIZED CAPACITOR, European symbol
footprint ETR2
pins: +, -

## CPOL-EUETR3
designator C?, comment POLARIZED CAPACITOR, European symbol
footprint ETR3
pins: +, -

## CPOL-EUETR4
designator C?, comment POLARIZED CAPACITOR, European symbol
footprint ETR4
pins: +, -

## CPOL-EUETR5
designator C?, comment POLARIZED CAPACITOR, European symbol
footprint ETR5
pins: +, -

## CPOL-EUF
designator C?, comment POLARIZED CAPACITOR, European symbol
footprint PANASONIC_F
pins: +, -

## CPOL-EUG
designator C?, comment POLARIZED CAPACITOR, European symbol
footprint PANASONIC_G
pins: +, -

## CPOL-EUP128-35
designator C?, comment POLARIZED CAPACITOR, European symbol
footprint P128-35
pins: +, -

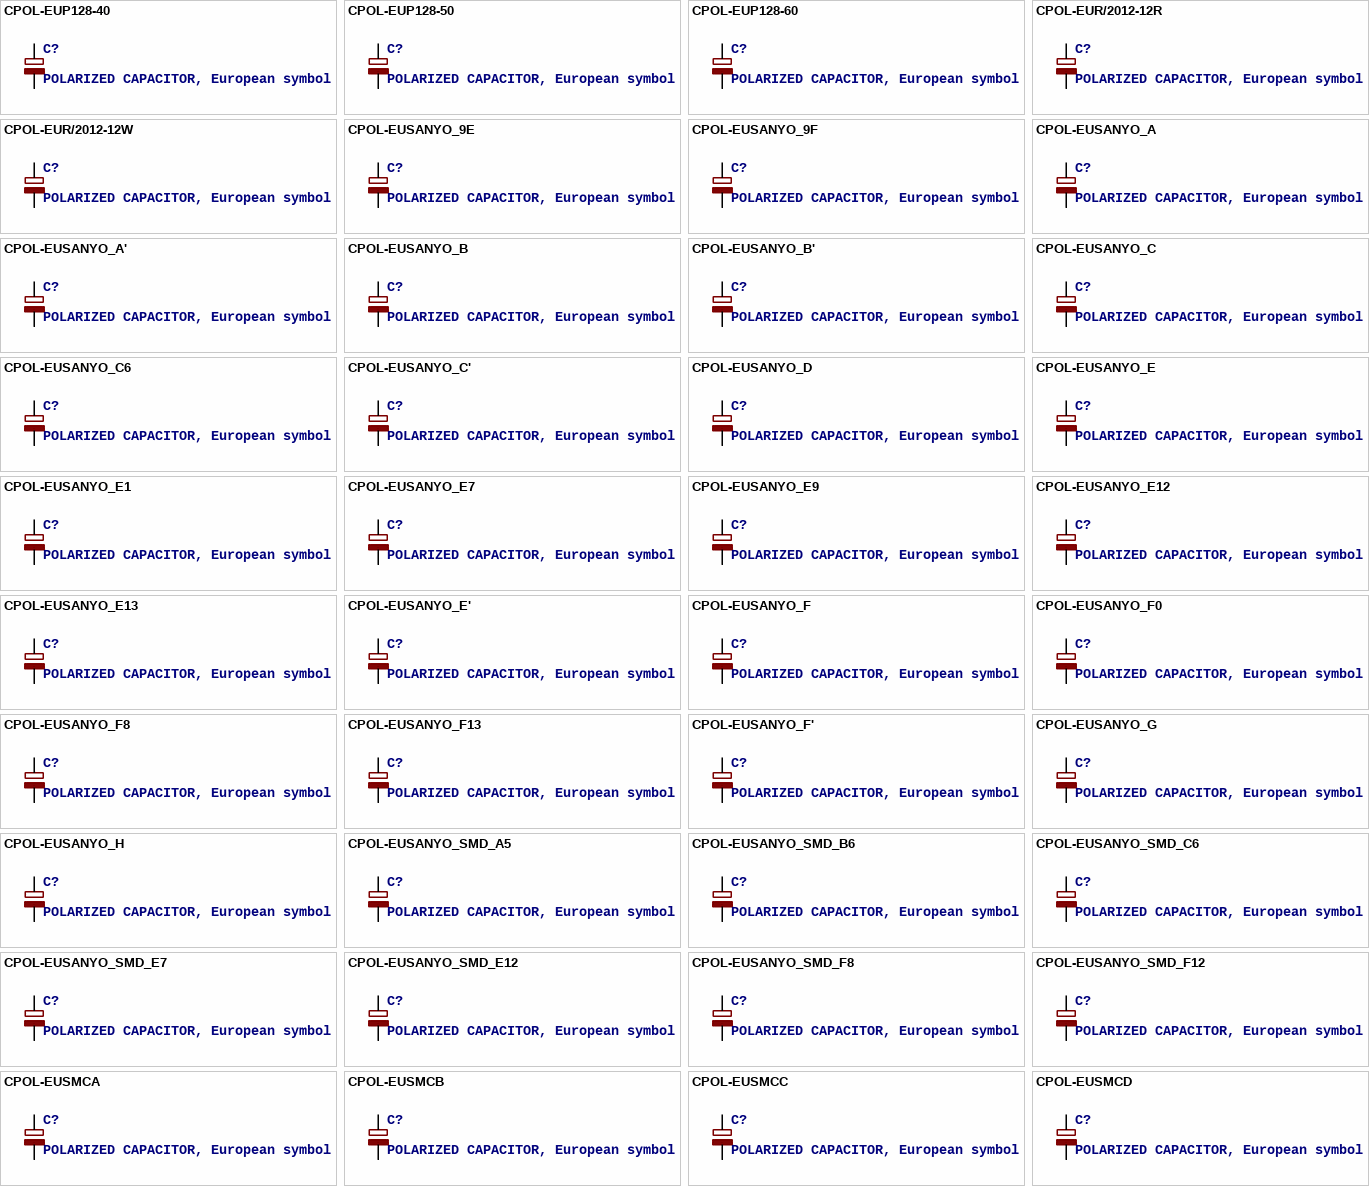
[diagram p7: symbols CPOL-EUP128-40 to CPOL-EUSMCD]

## CPOL-EUP128-40
designator C?, comment POLARIZED CAPACITOR, European symbol
footprint P128-40
pins: +, -

## CPOL-EUP128-50
designator C?, comment POLARIZED CAPACITOR, European symbol
footprint P128-50
pins: +, -

## CPOL-EUP128-60
designator C?, comment POLARIZED CAPACITOR, European symbol
footprint P128-60
pins: +, -

## CPOL-EUR/2012-12R
designator C?, comment POLARIZED CAPACITOR, European symbol
footprint R/2012-12R
pins: +, -

## CPOL-EUR/2012-12W
designator C?, comment POLARIZED CAPACITOR, European symbol
footprint R/2012-12W
pins: +, -

## CPOL-EUSANYO_9E
designator C?, comment POLARIZED CAPACITOR, European symbol
footprint SANYO-OSCON_9E
pins: +, -

## CPOL-EUSANYO_9F
designator C?, comment POLARIZED CAPACITOR, European symbol
footprint SANYO-OSCON_9F
pins: +, -

## CPOL-EUSANYO_A
designator C?, comment POLARIZED CAPACITOR, European symbol
footprint SANYO-OSCON_A
pins: +, -

## CPOL-EUSANYO_A'
designator C?, comment POLARIZED CAPACITOR, European symbol
footprint SANYO-OSCON_A'
pins: +, -

## CPOL-EUSANYO_B
designator C?, comment POLARIZED CAPACITOR, European symbol
footprint SANYO-OSCON_B
pins: +, -

## CPOL-EUSANYO_B'
designator C?, comment POLARIZED CAPACITOR, European symbol
footprint SANYO-OSCON_B'
pins: +, -

## CPOL-EUSANYO_C
designator C?, comment POLARIZED CAPACITOR, European symbol
footprint SANYO-OSCON_C
pins: +, -

## CPOL-EUSANYO_C6
designator C?, comment POLARIZED CAPACITOR, European symbol
footprint SANYO-OSCON_C6
pins: +, -

## CPOL-EUSANYO_C'
designator C?, comment POLARIZED CAPACITOR, European symbol
footprint SANYO-OSCON_C'
pins: +, -

## CPOL-EUSANYO_D
designator C?, comment POLARIZED CAPACITOR, European symbol
footprint SANYO-OSCON_D
pins: +, -

## CPOL-EUSANYO_E
designator C?, comment POLARIZED CAPACITOR, European symbol
footprint SANYO-OSCON_E
pins: +, -

## CPOL-EUSANYO_E1
designator C?, comment POLARIZED CAPACITOR, European symbol
footprint SANYO-OSCON_E1
pins: +, -

## CPOL-EUSANYO_E7
designator C?, comment POLARIZED CAPACITOR, European symbol
footprint SANYO-OSCON_E7
pins: +, -

## CPOL-EUSANYO_E9
designator C?, comment POLARIZED CAPACITOR, European symbol
footprint SANYO-OSCON_E9
pins: +, -

## CPOL-EUSANYO_E12
designator C?, comment POLARIZED CAPACITOR, European symbol
footprint SANYO-OSCON_E12
pins: +, -

## CPOL-EUSANYO_E13
designator C?, comment POLARIZED CAPACITOR, European symbol
footprint SANYO-OSCON_E13
pins: +, -

## CPOL-EUSANYO_E'
designator C?, comment POLARIZED CAPACITOR, European symbol
footprint SANYO-OSCON_E'
pins: +, -

## CPOL-EUSANYO_F
designator C?, comment POLARIZED CAPACITOR, European symbol
footprint SANYO-OSCON_F
pins: +, -

## CPOL-EUSANYO_F0
designator C?, comment POLARIZED CAPACITOR, European symbol
footprint SANYO-OSCON_F0
pins: +, -

## CPOL-EUSANYO_F8
designator C?, comment POLARIZED CAPACITOR, European symbol
footprint SANYO-OSCON_F8
pins: +, -

## CPOL-EUSANYO_F13
designator C?, comment POLARIZED CAPACITOR, European symbol
footprint SANYO-OSCON_F13
pins: +, -

## CPOL-EUSANYO_F'
designator C?, comment POLARIZED CAPACITOR, European symbol
footprint SANYO-OSCON_F'
pins: +, -

## CPOL-EUSANYO_G
designator C?, comment POLARIZED CAPACITOR, European symbol
footprint SANYO-OSCON_G
pins: +, -

## CPOL-EUSANYO_H
designator C?, comment POLARIZED CAPACITOR, European symbol
footprint SANYO-OSCON_H
pins: +, -

## CPOL-EUSANYO_SMD_A5
designator C?, comment POLARIZED CAPACITOR, European symbol
footprint SANYO-OSCON_SMD_A5
pins: +, -

## CPOL-EUSANYO_SMD_B6
designator C?, comment POLARIZED CAPACITOR, European symbol
footprint SANYO-OSCON_SMD_B6
pins: +, -

## CPOL-EUSANYO_SMD_C6
designator C?, comment POLARIZED CAPACITOR, European symbol
footprint SANYO-OSCON_SMD_C6
pins: +, -

## CPOL-EUSANYO_SMD_E7
designator C?, comment POLARIZED CAPACITOR, European symbol
footprint SANYO-OSCON_SMD_E7
pins: +, -

## CPOL-EUSANYO_SMD_E12
designator C?, comment POLARIZED CAPACITOR, European symbol
footprint SANYO-OSCON_SMD_E12
pins: +, -

## CPOL-EUSANYO_SMD_F8
designator C?, comment POLARIZED CAPACITOR, European symbol
footprint SANYO-OSCON_SMD_F8
pins: +, -

## CPOL-EUSANYO_SMD_F12
designator C?, comment POLARIZED CAPACITOR, European symbol
footprint SANYO-OSCON_SMD_F12
pins: +, -

## CPOL-EUSMCA
designator C?, comment POLARIZED CAPACITOR, European symbol
footprint SMC_A
pins: +, -

## CPOL-EUSMCB
designator C?, comment POLARIZED CAPACITOR, European symbol
footprint SMC_B
pins: +, -

## CPOL-EUSMCC
designator C?, comment POLARIZED CAPACITOR, European symbol
footprint SMC_C
pins: +, -

## CPOL-EUSMCD
designator C?, comment POLARIZED CAPACITOR, European symbol
footprint SMC_D
pins: +, -

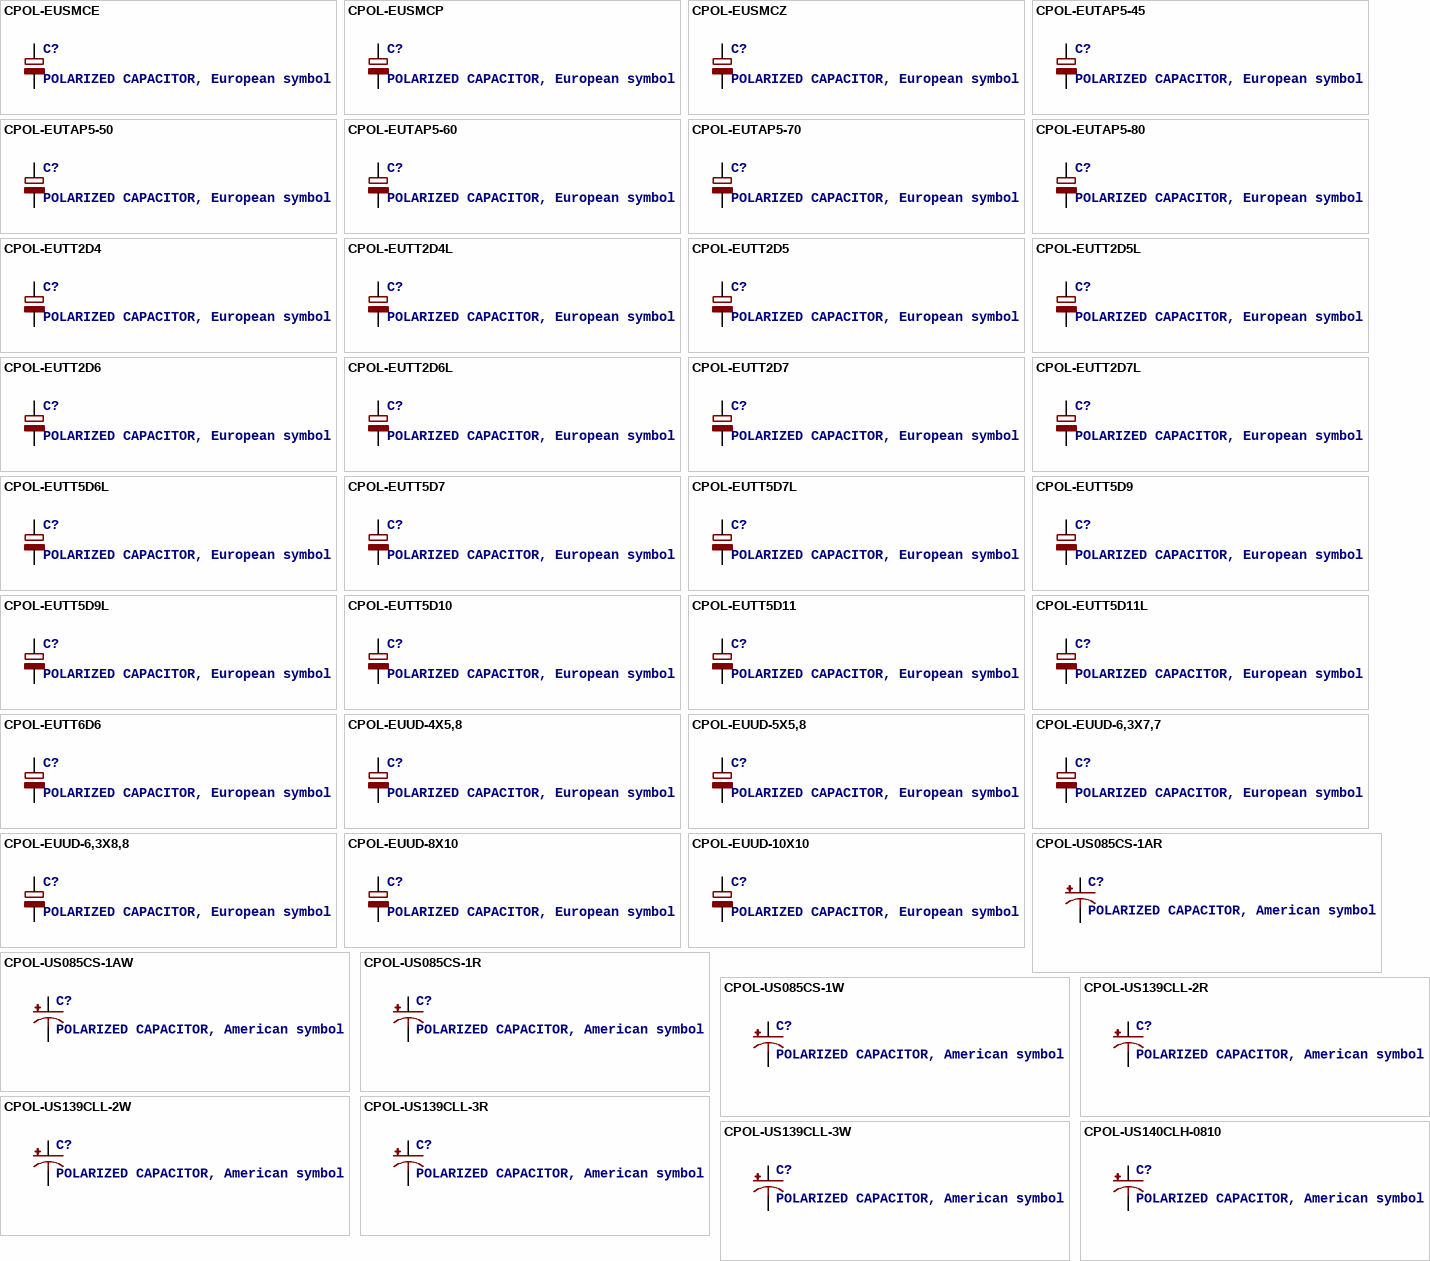
[diagram p8: symbols CPOL-EUSMCE to CPOL-US140CLH-0810]

## CPOL-EUSMCE
designator C?, comment POLARIZED CAPACITOR, European symbol
footprint SMC_E
pins: +, -

## CPOL-EUSMCP
designator C?, comment POLARIZED CAPACITOR, European symbol
footprint SMC_P
pins: +, -

## CPOL-EUSMCZ
designator C?, comment POLARIZED CAPACITOR, European symbol
footprint SMC_Z
pins: +, -

## CPOL-EUTAP5-45
designator C?, comment POLARIZED CAPACITOR, European symbol
footprint TAP5-45
pins: +, -

## CPOL-EUTAP5-50
designator C?, comment POLARIZED CAPACITOR, European symbol
footprint TAP5-50
pins: +, -

## CPOL-EUTAP5-60
designator C?, comment POLARIZED CAPACITOR, European symbol
footprint TAP5-60
pins: +, -

## CPOL-EUTAP5-70
designator C?, comment POLARIZED CAPACITOR, European symbol
footprint TAP5-70
pins: +, -

## CPOL-EUTAP5-80
designator C?, comment POLARIZED CAPACITOR, European symbol
footprint TAP5-80
pins: +, -

## CPOL-EUTT2D4
designator C?, comment POLARIZED CAPACITOR, European symbol
footprint TT2D4
pins: +, -

## CPOL-EUTT2D4L
designator C?, comment POLARIZED CAPACITOR, European symbol
footprint TT2D4L
pins: +, -

## CPOL-EUTT2D5
designator C?, comment POLARIZED CAPACITOR, European symbol
footprint TT2D5
pins: +, -

## CPOL-EUTT2D5L
designator C?, comment POLARIZED CAPACITOR, European symbol
footprint TT2D5L
pins: +, -

## CPOL-EUTT2D6
designator C?, comment POLARIZED CAPACITOR, European symbol
footprint TT2D6
pins: +, -

## CPOL-EUTT2D6L
designator C?, comment POLARIZED CAPACITOR, European symbol
footprint TT2D6L
pins: +, -

## CPOL-EUTT2D7
designator C?, comment POLARIZED CAPACITOR, European symbol
footprint TT2D7
pins: +, -

## CPOL-EUTT2D7L
designator C?, comment POLARIZED CAPACITOR, European symbol
footprint TT2D7L
pins: +, -

## CPOL-EUTT5D6L
designator C?, comment POLARIZED CAPACITOR, European symbol
footprint TT5D6L
pins: +, -

## CPOL-EUTT5D7
designator C?, comment POLARIZED CAPACITOR, European symbol
footprint TT5D7
pins: +, -

## CPOL-EUTT5D7L
designator C?, comment POLARIZED CAPACITOR, European symbol
footprint TT5D7L
pins: +, -

## CPOL-EUTT5D9
designator C?, comment POLARIZED CAPACITOR, European symbol
footprint TT5D9
pins: +, -

## CPOL-EUTT5D9L
designator C?, comment POLARIZED CAPACITOR, European symbol
footprint TT5D9L
pins: +, -

## CPOL-EUTT5D10
designator C?, comment POLARIZED CAPACITOR, European symbol
footprint TT5D10
pins: +, -

## CPOL-EUTT5D11
designator C?, comment POLARIZED CAPACITOR, European symbol
footprint TT5D11
pins: +, -

## CPOL-EUTT5D11L
designator C?, comment POLARIZED CAPACITOR, European symbol
footprint TT5D11L
pins: +, -

## CPOL-EUTT6D6
designator C?, comment POLARIZED CAPACITOR, European symbol
footprint TT5D6
pins: +, -

## CPOL-EUUD-4X5,8
designator C?, comment POLARIZED CAPACITOR, European symbol
footprint UD-4X5,8_NICHICON
pins: +, -

## CPOL-EUUD-5X5,8
designator C?, comment POLARIZED CAPACITOR, European symbol
footprint UD-5X5,8_NICHICON
pins: +, -

## CPOL-EUUD-6,3X7,7
designator C?, comment POLARIZED CAPACITOR, European symbol
footprint UD-6,3X7,7_NICHICON
pins: +, -

## CPOL-EUUD-6,3X8,8
designator C?, comment POLARIZED CAPACITOR, European symbol
footprint UD-6,3X5,8_NICHICON
pins: +, -

## CPOL-EUUD-8X10
designator C?, comment POLARIZED CAPACITOR, European symbol
footprint UD-8X10_NICHICON
pins: +, -

## CPOL-EUUD-10X10
designator C?, comment POLARIZED CAPACITOR, European symbol
footprint UD-10X10_NICHICON
pins: +, -

## CPOL-US085CS-1AR
designator C?, comment POLARIZED CAPACITOR, American symbol
footprint 085CS_1AR
pins: +, -

## CPOL-US085CS-1AW
designator C?, comment POLARIZED CAPACITOR, American symbol
footprint 085CS_1AW
pins: +, -

## CPOL-US085CS-1R
designator C?, comment POLARIZED CAPACITOR, American symbol
footprint 085CS_1R
pins: +, -

## CPOL-US085CS-1W
designator C?, comment POLARIZED CAPACITOR, American symbol
footprint 085CS_1W
pins: +, -

## CPOL-US139CLL-2R
designator C?, comment POLARIZED CAPACITOR, American symbol
footprint 139CLL-2R
pins: +, -

## CPOL-US139CLL-2W
designator C?, comment POLARIZED CAPACITOR, American symbol
footprint 139CLL-2W
pins: +, -

## CPOL-US139CLL-3R
designator C?, comment POLARIZED CAPACITOR, American symbol
footprint 139CLL-3R
pins: +, -

## CPOL-US139CLL-3W
designator C?, comment POLARIZED CAPACITOR, American symbol
footprint 139CLL-3W
pins: +, -

## CPOL-US140CLH-0810
designator C?, comment POLARIZED CAPACITOR, American symbol
footprint 140CLH-0810
pins: +, -

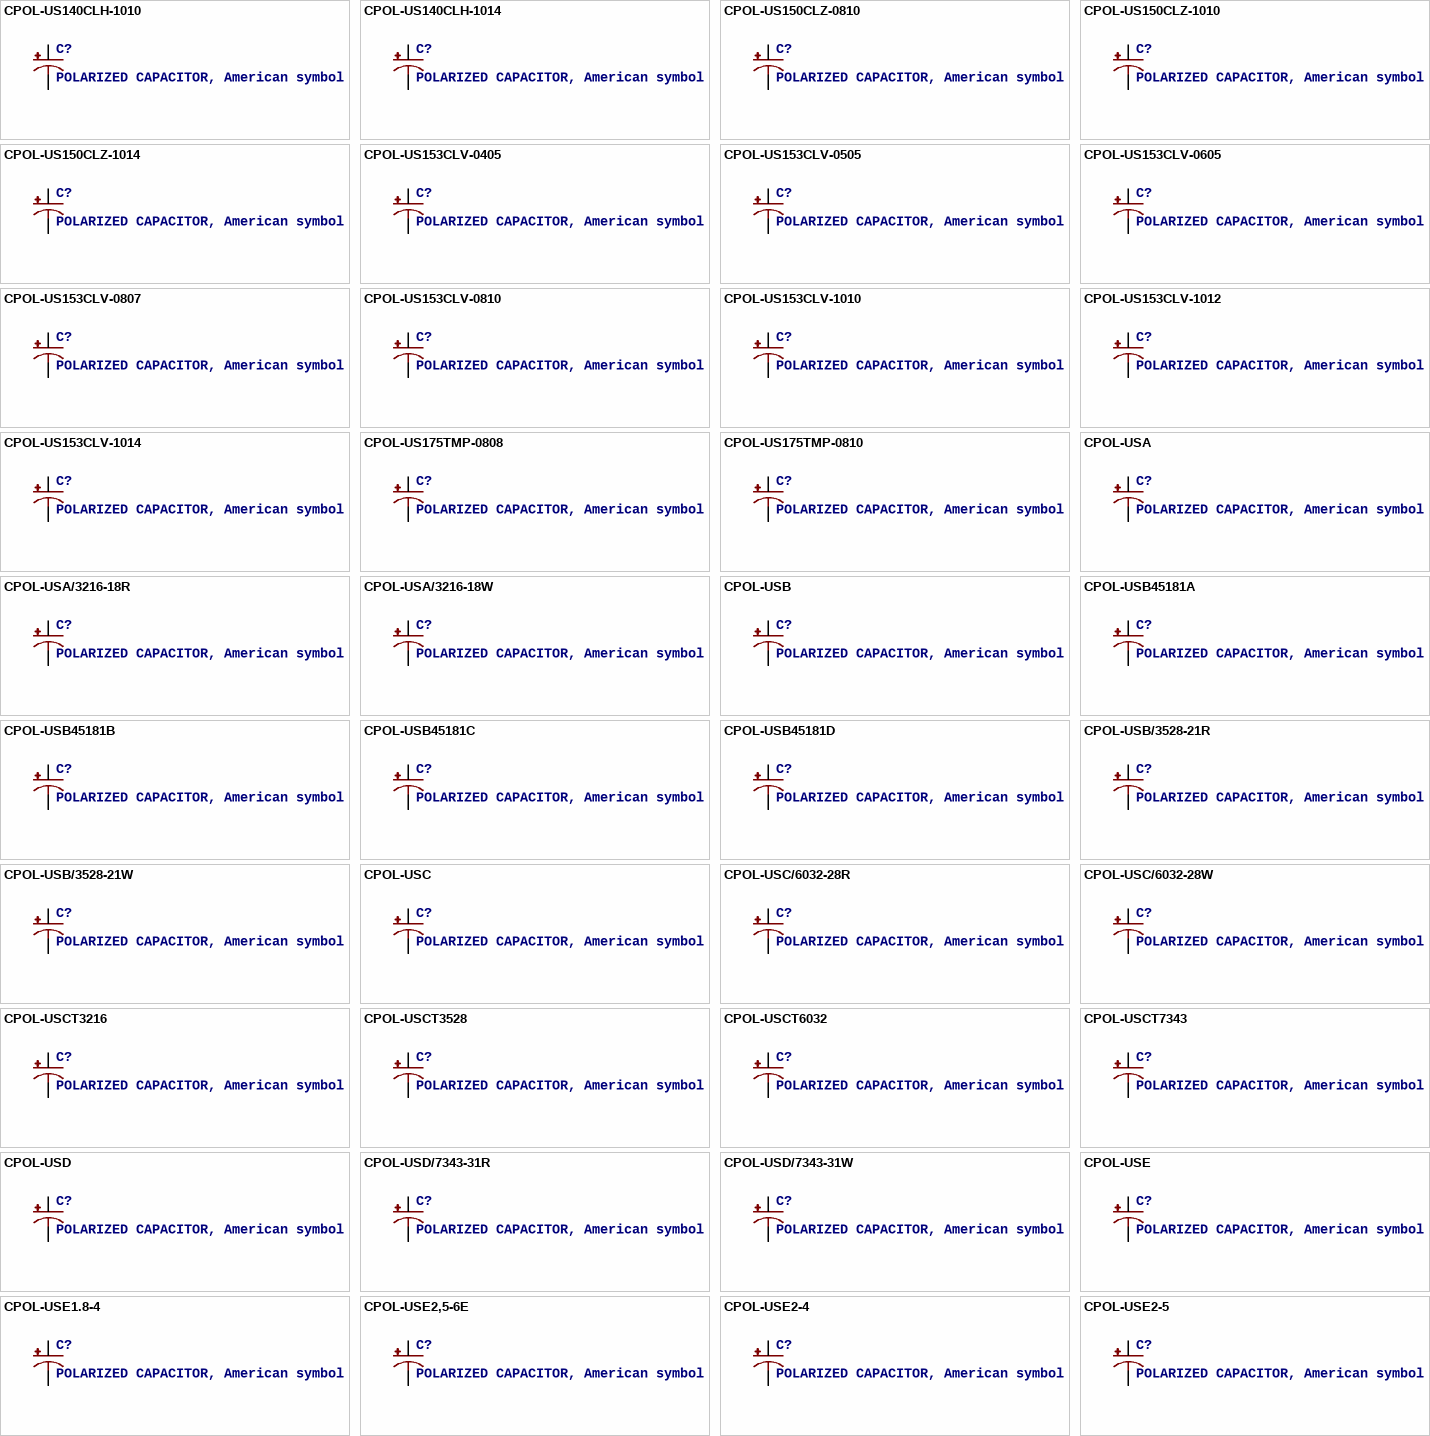
[diagram p9: symbols CPOL-US140CLH-1010 to CPOL-USE2-5]

## CPOL-US140CLH-1010
designator C?, comment POLARIZED CAPACITOR, American symbol
footprint 140CLH-1010
pins: +, -

## CPOL-US140CLH-1014
designator C?, comment POLARIZED CAPACITOR, American symbol
footprint 140CLH-1014
pins: +, -

## CPOL-US150CLZ-0810
designator C?, comment POLARIZED CAPACITOR, American symbol
footprint 150CLZ-0810
pins: +, -

## CPOL-US150CLZ-1010
designator C?, comment POLARIZED CAPACITOR, American symbol
footprint 150CLZ-1010
pins: +, -

## CPOL-US150CLZ-1014
designator C?, comment POLARIZED CAPACITOR, American symbol
footprint 150CLZ-1014
pins: +, -

## CPOL-US153CLV-0405
designator C?, comment POLARIZED CAPACITOR, American symbol
footprint 153CLV-0405
pins: +, -

## CPOL-US153CLV-0505
designator C?, comment POLARIZED CAPACITOR, American symbol
footprint 153CLV-0505
pins: +, -

## CPOL-US153CLV-0605
designator C?, comment POLARIZED CAPACITOR, American symbol
footprint 153CLV-0605
pins: +, -

## CPOL-US153CLV-0807
designator C?, comment POLARIZED CAPACITOR, American symbol
footprint 153CLV-0807
pins: +, -

## CPOL-US153CLV-0810
designator C?, comment POLARIZED CAPACITOR, American symbol
footprint 153CLV-0810
pins: +, -

## CPOL-US153CLV-1010
designator C?, comment POLARIZED CAPACITOR, American symbol
footprint 153CLV-1010
pins: +, -

## CPOL-US153CLV-1012
designator C?, comment POLARIZED CAPACITOR, American symbol
footprint 153CLV-1012
pins: +, -

## CPOL-US153CLV-1014
designator C?, comment POLARIZED CAPACITOR, American symbol
footprint 153CLV-1014
pins: +, -

## CPOL-US175TMP-0808
designator C?, comment POLARIZED CAPACITOR, American symbol
footprint 175TMP-0808
pins: +, -

## CPOL-US175TMP-0810
designator C?, comment POLARIZED CAPACITOR, American symbol
footprint 175TMP-0810
pins: +, -

## CPOL-USA
designator C?, comment POLARIZED CAPACITOR, American symbol
footprint PANASONIC_A
pins: +, -

## CPOL-USA/3216-18R
designator C?, comment POLARIZED CAPACITOR, American symbol
footprint A/3216-18R
pins: +, -

## CPOL-USA/3216-18W
designator C?, comment POLARIZED CAPACITOR, American symbol
footprint A/3216-18W
pins: +, -

## CPOL-USB
designator C?, comment POLARIZED CAPACITOR, American symbol
footprint PANASONIC_B
pins: +, -

## CPOL-USB45181A
designator C?, comment POLARIZED CAPACITOR, American symbol
footprint B45181A
pins: +, -

## CPOL-USB45181B
designator C?, comment POLARIZED CAPACITOR, American symbol
footprint B45181B
pins: +, -

## CPOL-USB45181C
designator C?, comment POLARIZED CAPACITOR, American symbol
footprint B45181C
pins: +, -

## CPOL-USB45181D
designator C?, comment POLARIZED CAPACITOR, American symbol
footprint B45181D
pins: +, -

## CPOL-USB/3528-21R
designator C?, comment POLARIZED CAPACITOR, American symbol
footprint B/3528-21R
pins: +, -

## CPOL-USB/3528-21W
designator C?, comment POLARIZED CAPACITOR, American symbol
footprint B/3528-21W
pins: +, -

## CPOL-USC
designator C?, comment POLARIZED CAPACITOR, American symbol
footprint PANASONIC_C
pins: +, -

## CPOL-USC/6032-28R
designator C?, comment POLARIZED CAPACITOR, American symbol
footprint C/6032-28R
pins: +, -

## CPOL-USC/6032-28W
designator C?, comment POLARIZED CAPACITOR, American symbol
footprint C/6032-28W
pins: +, -

## CPOL-USCT3216
designator C?, comment POLARIZED CAPACITOR, American symbol
footprint CT3216
pins: +, -

## CPOL-USCT3528
designator C?, comment POLARIZED CAPACITOR, American symbol
footprint CT3528
pins: +, -

## CPOL-USCT6032
designator C?, comment POLARIZED CAPACITOR, American symbol
footprint CT6032
pins: +, -

## CPOL-USCT7343
designator C?, comment POLARIZED CAPACITOR, American symbol
footprint CT7343
pins: +, -

## CPOL-USD
designator C?, comment POLARIZED CAPACITOR, American symbol
footprint PANASONIC_D
pins: +, -

## CPOL-USD/7343-31R
designator C?, comment POLARIZED CAPACITOR, American symbol
footprint D/7343-31R
pins: +, -

## CPOL-USD/7343-31W
designator C?, comment POLARIZED CAPACITOR, American symbol
footprint D/7343-31W
pins: +, -

## CPOL-USE
designator C?, comment POLARIZED CAPACITOR, American symbol
footprint PANASONIC_E
pins: +, -

## CPOL-USE1.8-4
designator C?, comment POLARIZED CAPACITOR, American symbol
footprint E1,8-4
pins: +, -

## CPOL-USE2,5-6E
designator C?, comment POLARIZED CAPACITOR, American symbol
footprint E2,5-6E
pins: +, -

## CPOL-USE2-4
designator C?, comment POLARIZED CAPACITOR, American symbol
footprint E2-4
pins: +, -

## CPOL-USE2-5
designator C?, comment POLARIZED CAPACITOR, American symbol
footprint E2-5
pins: +, -

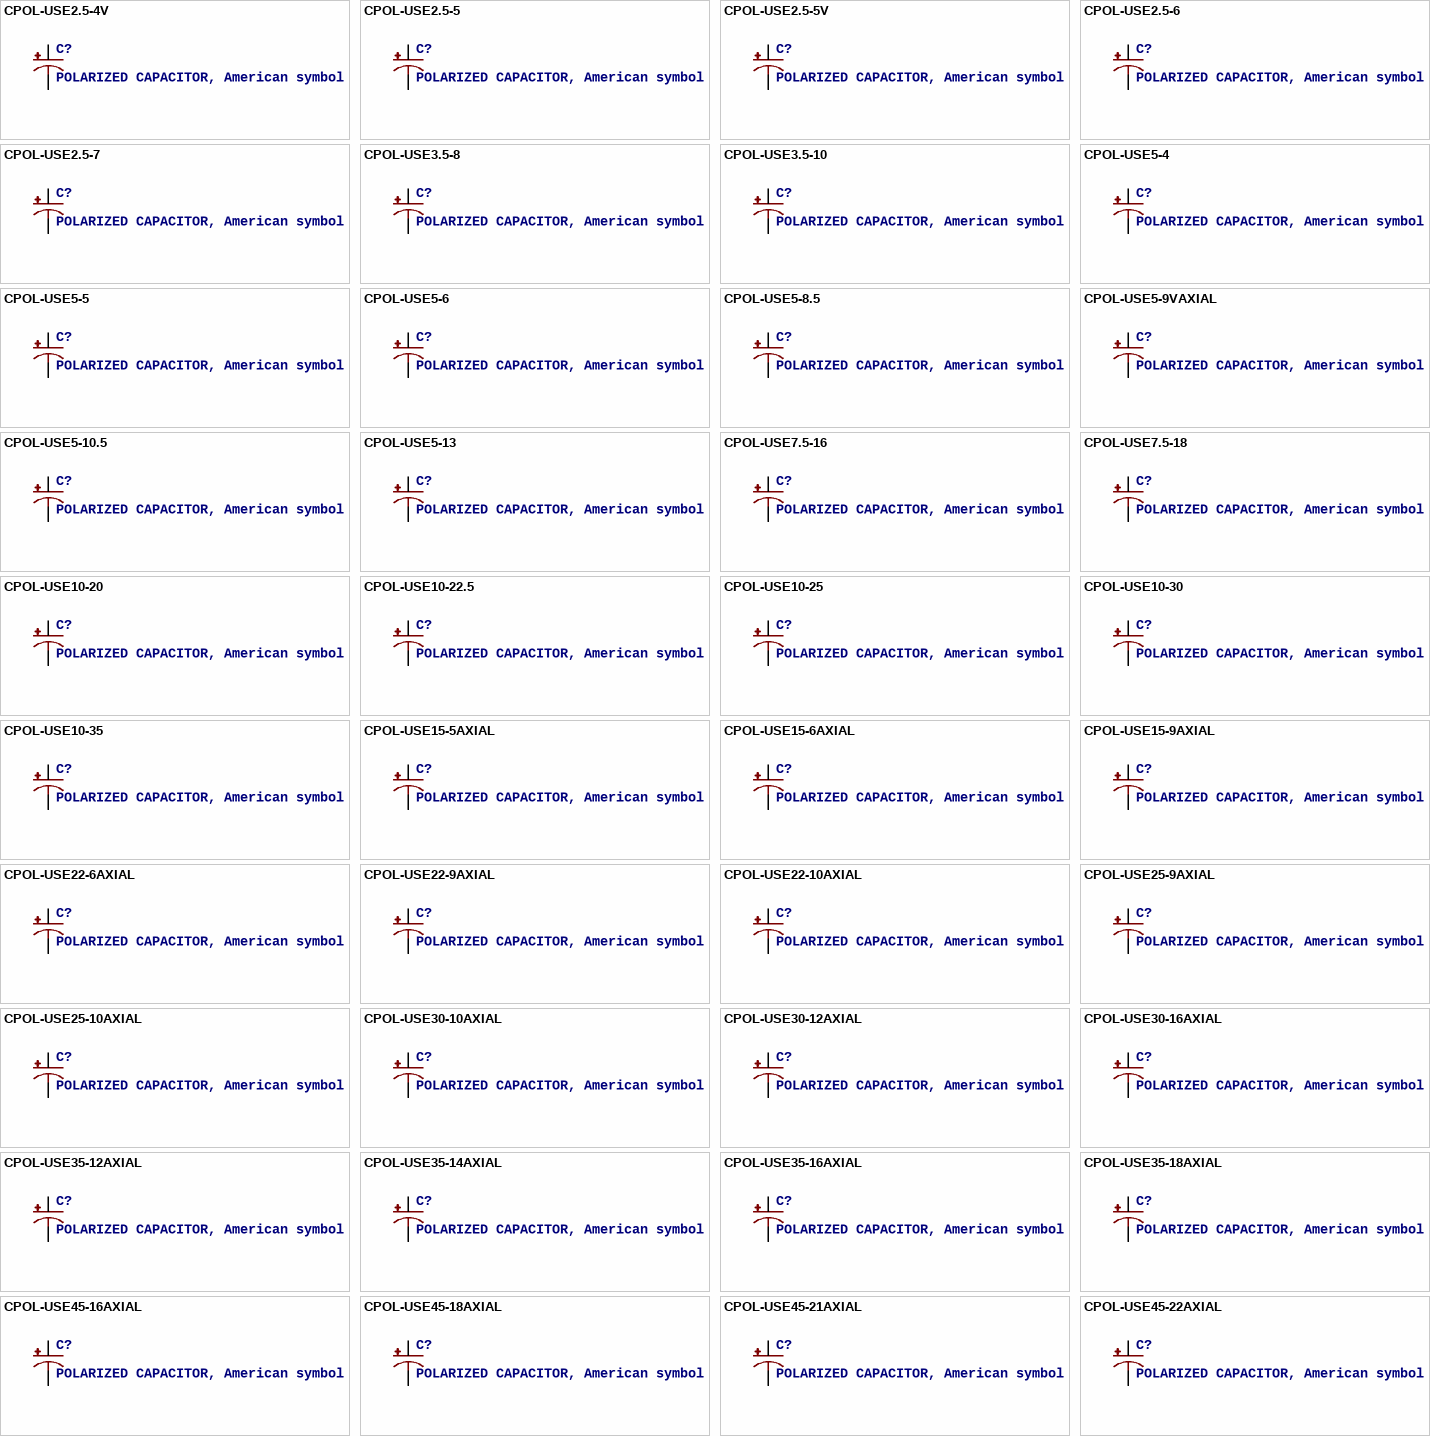
[diagram p10: symbols CPOL-USE2.5-4V to CPOL-USE45-22AXIAL]

## CPOL-USE2.5-4V
designator C?, comment POLARIZED CAPACITOR, American symbol
footprint E2,5RE
pins: +, -

## CPOL-USE2.5-5
designator C?, comment POLARIZED CAPACITOR, American symbol
footprint E2,5-5
pins: +, -

## CPOL-USE2.5-5V
designator C?, comment POLARIZED CAPACITOR, American symbol
footprint E2,5-4R
pins: +, -

## CPOL-USE2.5-6
designator C?, comment POLARIZED CAPACITOR, American symbol
footprint E2,5-6
pins: +, -

## CPOL-USE2.5-7
designator C?, comment POLARIZED CAPACITOR, American symbol
footprint E2,5-7
pins: +, -

## CPOL-USE3.5-8
designator C?, comment POLARIZED CAPACITOR, American symbol
footprint E3,5-8
pins: +, -

## CPOL-USE3.5-10
designator C?, comment POLARIZED CAPACITOR, American symbol
footprint E3,5-10
pins: +, -

## CPOL-USE5-4
designator C?, comment POLARIZED CAPACITOR, American symbol
footprint E5-4
pins: +, -

## CPOL-USE5-5
designator C?, comment POLARIZED CAPACITOR, American symbol
footprint E5-5
pins: +, -

## CPOL-USE5-6
designator C?, comment POLARIZED CAPACITOR, American symbol
footprint E5-6
pins: +, -

## CPOL-USE5-8.5
designator C?, comment POLARIZED CAPACITOR, American symbol
footprint E5-8,5
pins: +, -

## CPOL-USE5-9VAXIAL
designator C?, comment POLARIZED CAPACITOR, American symbol
footprint E5R
pins: +, -

## CPOL-USE5-10.5
designator C?, comment POLARIZED CAPACITOR, American symbol
footprint E5-10,5
pins: +, -

## CPOL-USE5-13
designator C?, comment POLARIZED CAPACITOR, American symbol
footprint E5-13
pins: +, -

## CPOL-USE7.5-16
designator C?, comment POLARIZED CAPACITOR, American symbol
footprint E7,5-16
pins: +, -

## CPOL-USE7.5-18
designator C?, comment POLARIZED CAPACITOR, American symbol
footprint E7,5-18
pins: +, -

## CPOL-USE10-20
designator C?, comment POLARIZED CAPACITOR, American symbol
footprint EB20D
pins: +, -

## CPOL-USE10-22.5
designator C?, comment POLARIZED CAPACITOR, American symbol
footprint EB22,5D
pins: +, -

## CPOL-USE10-25
designator C?, comment POLARIZED CAPACITOR, American symbol
footprint EB25D
pins: +, -

## CPOL-USE10-30
designator C?, comment POLARIZED CAPACITOR, American symbol
footprint EB30D
pins: +, -

## CPOL-USE10-35
designator C?, comment POLARIZED CAPACITOR, American symbol
footprint EB35D
pins: +, -

## CPOL-USE15-5AXIAL
designator C?, comment POLARIZED CAPACITOR, American symbol
footprint E15-5
pins: +, -

## CPOL-USE15-6AXIAL
designator C?, comment POLARIZED CAPACITOR, American symbol
footprint E15-6
pins: +, -

## CPOL-USE15-9AXIAL
designator C?, comment POLARIZED CAPACITOR, American symbol
footprint E15-9
pins: +, -

## CPOL-USE22-6AXIAL
designator C?, comment POLARIZED CAPACITOR, American symbol
footprint E22-6
pins: +, -

## CPOL-USE22-9AXIAL
designator C?, comment POLARIZED CAPACITOR, American symbol
footprint E22-9
pins: +, -

## CPOL-USE22-10AXIAL
designator C?, comment POLARIZED CAPACITOR, American symbol
footprint E22-10
pins: +, -

## CPOL-USE25-9AXIAL
designator C?, comment POLARIZED CAPACITOR, American symbol
footprint E25-9
pins: +, -

## CPOL-USE25-10AXIAL
designator C?, comment POLARIZED CAPACITOR, American symbol
footprint E25-10
pins: +, -

## CPOL-USE30-10AXIAL
designator C?, comment POLARIZED CAPACITOR, American symbol
footprint E30-10
pins: +, -

## CPOL-USE30-12AXIAL
designator C?, comment POLARIZED CAPACITOR, American symbol
footprint E30-12
pins: +, -

## CPOL-USE30-16AXIAL
designator C?, comment POLARIZED CAPACITOR, American symbol
footprint E30-16
pins: +, -

## CPOL-USE35-12AXIAL
designator C?, comment POLARIZED CAPACITOR, American symbol
footprint E35-12
pins: +, -

## CPOL-USE35-14AXIAL
designator C?, comment POLARIZED CAPACITOR, American symbol
footprint E35-14
pins: +, -

## CPOL-USE35-16AXIAL
designator C?, comment POLARIZED CAPACITOR, American symbol
footprint E35-16
pins: +, -

## CPOL-USE35-18AXIAL
designator C?, comment POLARIZED CAPACITOR, American symbol
footprint E35-18
pins: +, -

## CPOL-USE45-16AXIAL
designator C?, comment POLARIZED CAPACITOR, American symbol
footprint E45-16
pins: +, -

## CPOL-USE45-18AXIAL
designator C?, comment POLARIZED CAPACITOR, American symbol
footprint E45-18
pins: +, -

## CPOL-USE45-21AXIAL
designator C?, comment POLARIZED CAPACITOR, American symbol
footprint E45-21
pins: +, -

## CPOL-USE45-22AXIAL
designator C?, comment POLARIZED CAPACITOR, American symbol
footprint E45-22
pins: +, -

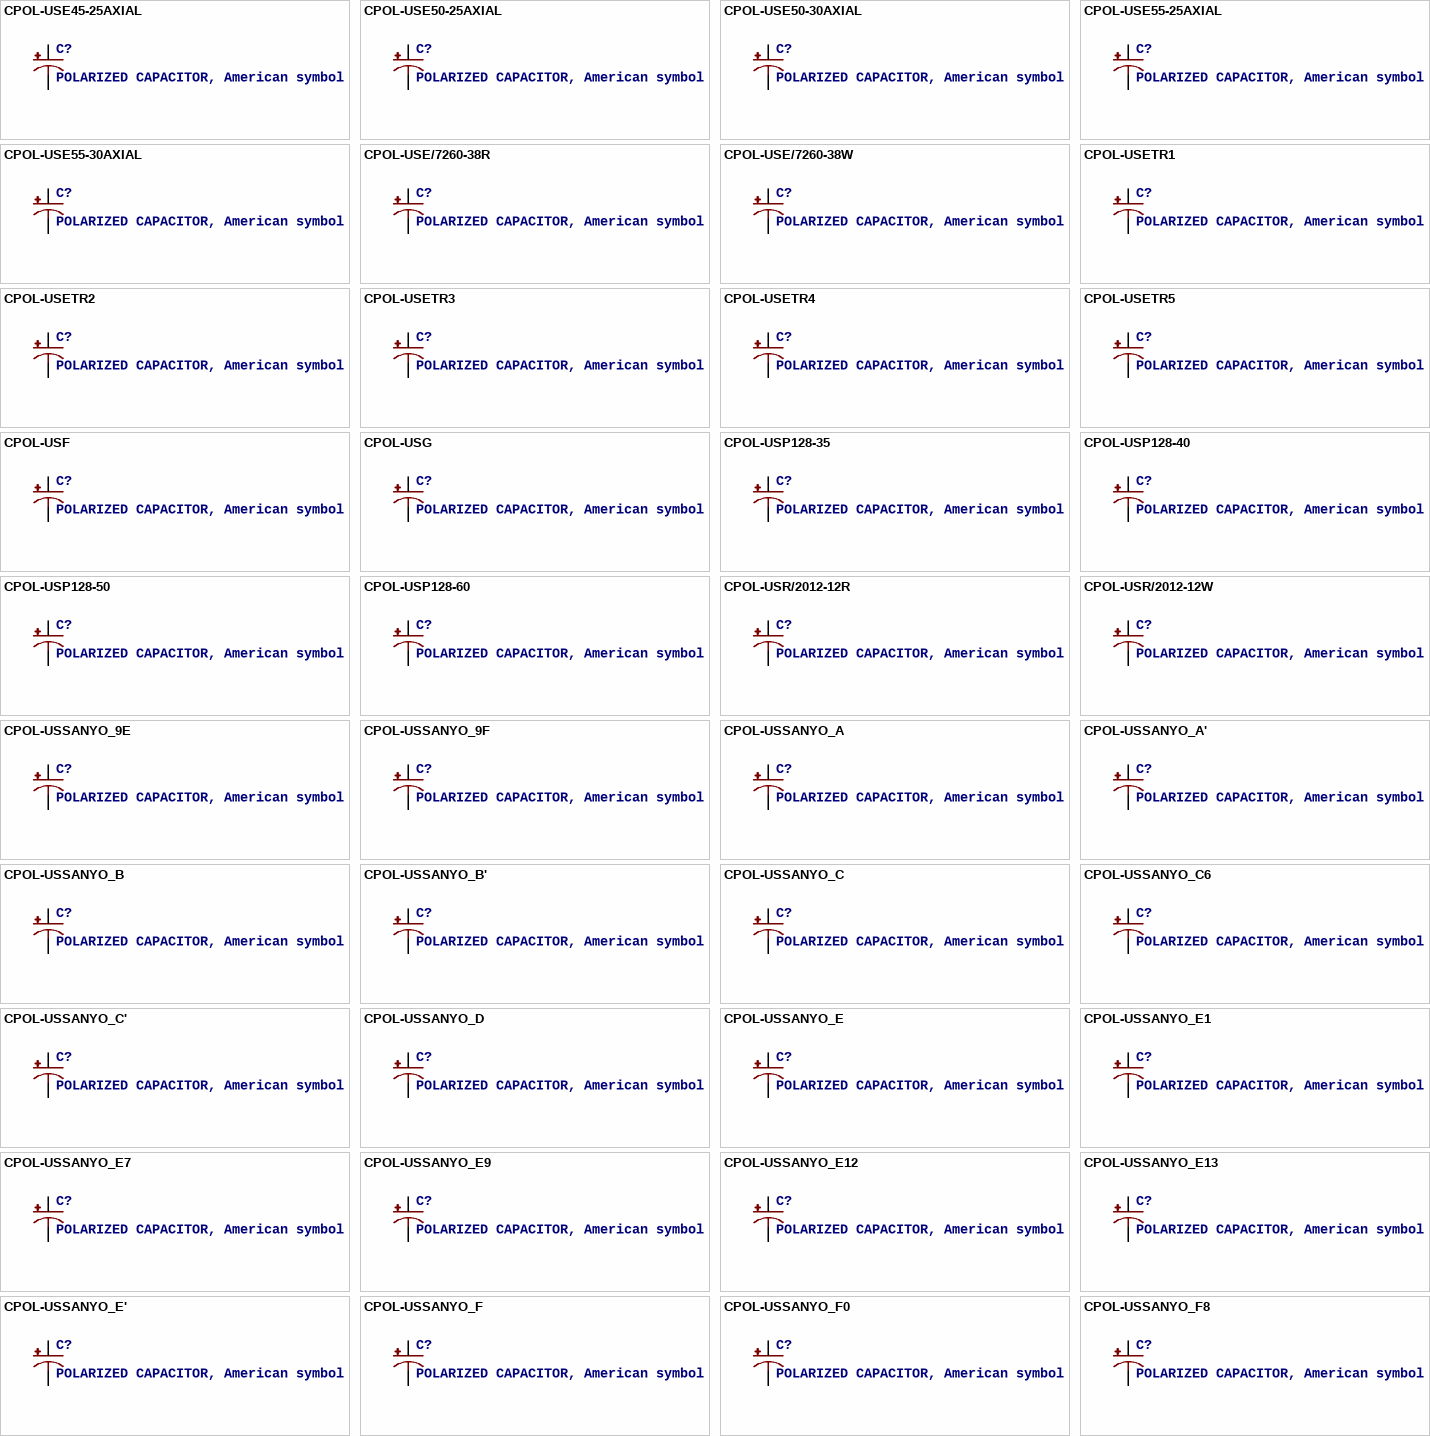
[diagram p11: symbols CPOL-USE45-25AXIAL to CPOL-USSANYO_F8]

## CPOL-USE45-25AXIAL
designator C?, comment POLARIZED CAPACITOR, American symbol
footprint E45-25
pins: +, -

## CPOL-USE50-25AXIAL
designator C?, comment POLARIZED CAPACITOR, American symbol
footprint E50-25
pins: +, -

## CPOL-USE50-30AXIAL
designator C?, comment POLARIZED CAPACITOR, American symbol
footprint E50-30
pins: +, -

## CPOL-USE55-25AXIAL
designator C?, comment POLARIZED CAPACITOR, American symbol
footprint E55-25
pins: +, -

## CPOL-USE55-30AXIAL
designator C?, comment POLARIZED CAPACITOR, American symbol
footprint E55-30
pins: +, -

## CPOL-USE/7260-38R
designator C?, comment POLARIZED CAPACITOR, American symbol
footprint E/7260-38R
pins: +, -

## CPOL-USE/7260-38W
designator C?, comment POLARIZED CAPACITOR, American symbol
footprint E/7260-38W
pins: +, -

## CPOL-USETR1
designator C?, comment POLARIZED CAPACITOR, American symbol
footprint ETR1
pins: +, -

## CPOL-USETR2
designator C?, comment POLARIZED CAPACITOR, American symbol
footprint ETR2
pins: +, -

## CPOL-USETR3
designator C?, comment POLARIZED CAPACITOR, American symbol
footprint ETR3
pins: +, -

## CPOL-USETR4
designator C?, comment POLARIZED CAPACITOR, American symbol
footprint ETR4
pins: +, -

## CPOL-USETR5
designator C?, comment POLARIZED CAPACITOR, American symbol
footprint ETR5
pins: +, -

## CPOL-USF
designator C?, comment POLARIZED CAPACITOR, American symbol
footprint PANASONIC_F
pins: +, -

## CPOL-USG
designator C?, comment POLARIZED CAPACITOR, American symbol
footprint PANASONIC_G
pins: +, -

## CPOL-USP128-35
designator C?, comment POLARIZED CAPACITOR, American symbol
footprint P128-35
pins: +, -

## CPOL-USP128-40
designator C?, comment POLARIZED CAPACITOR, American symbol
footprint P128-40
pins: +, -

## CPOL-USP128-50
designator C?, comment POLARIZED CAPACITOR, American symbol
footprint P128-50
pins: +, -

## CPOL-USP128-60
designator C?, comment POLARIZED CAPACITOR, American symbol
footprint P128-60
pins: +, -

## CPOL-USR/2012-12R
designator C?, comment POLARIZED CAPACITOR, American symbol
footprint R/2012-12R
pins: +, -

## CPOL-USR/2012-12W
designator C?, comment POLARIZED CAPACITOR, American symbol
footprint R/2012-12W
pins: +, -

## CPOL-USSANYO_9E
designator C?, comment POLARIZED CAPACITOR, American symbol
footprint SANYO-OSCON_9E
pins: +, -

## CPOL-USSANYO_9F
designator C?, comment POLARIZED CAPACITOR, American symbol
footprint SANYO-OSCON_9F
pins: +, -